# Altium integrated library Lattice ispGDX.IntLib: 49 symbols (part 1 of 6)
Pins are listed as number, name and electrical type; pins without a type are passive.

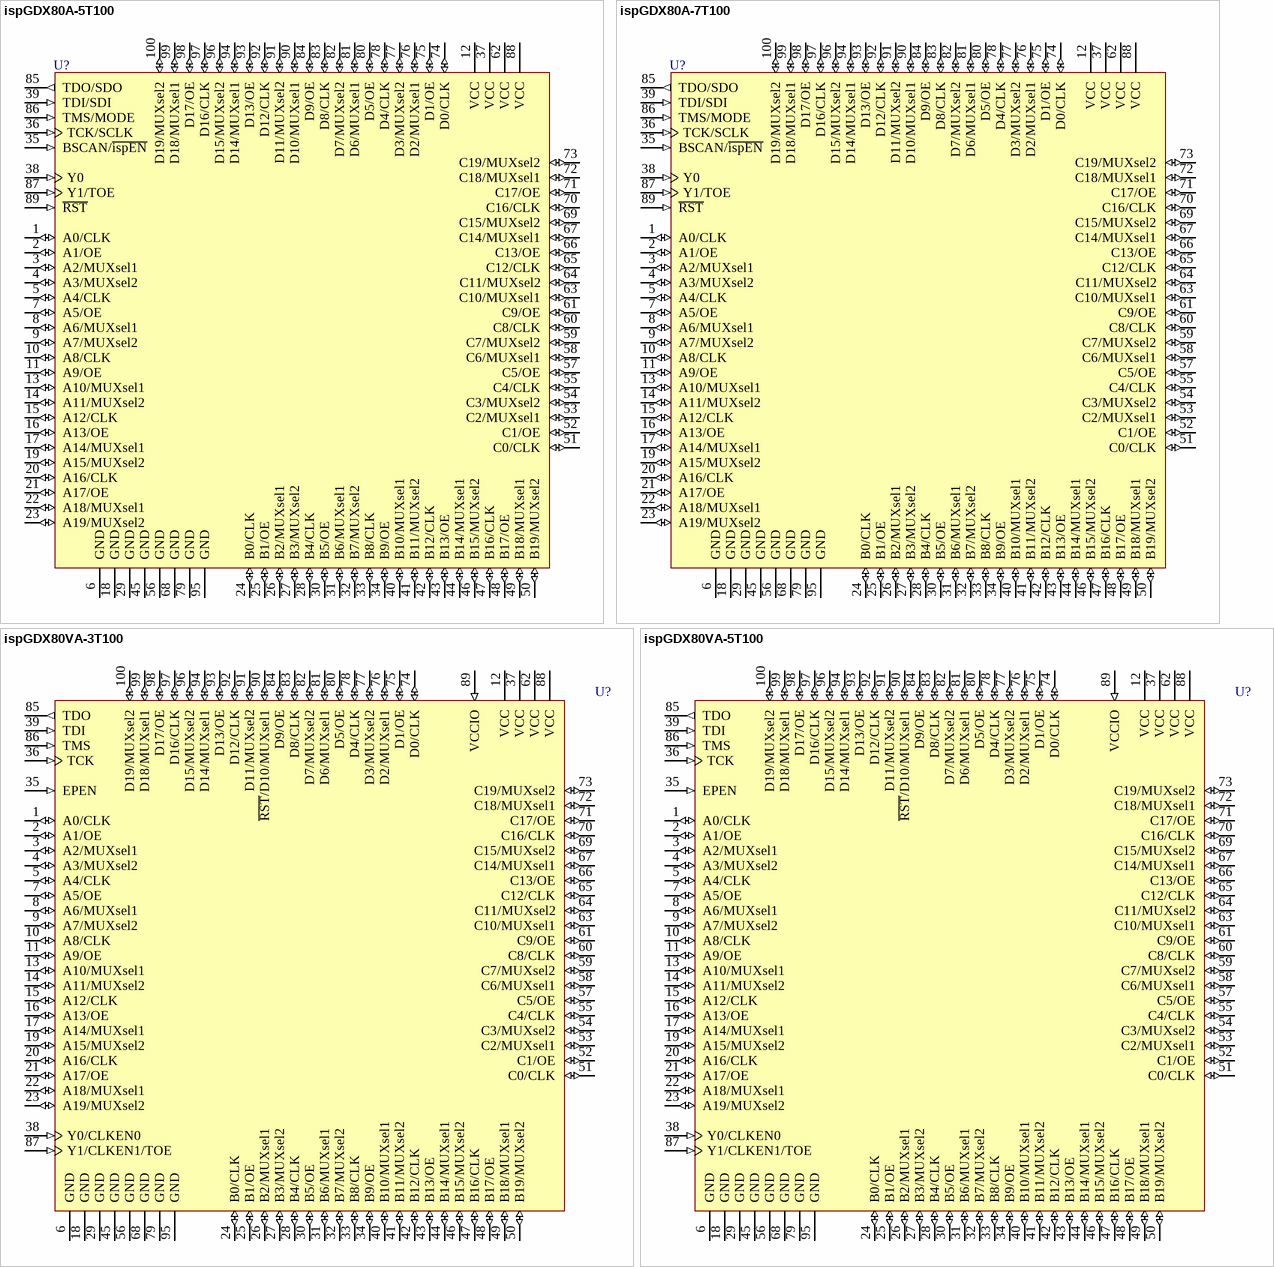
[diagram p0: symbols ispGDX80A-5T100 to ispGDX80VA-5T100]

## ispGDX80A-5T100
designator U?
In-System Programmable Generic Digital Crosspoint; Published: 17-Jul-2002; LatestRevisionDate: 13-Apr-2006; LatestRevisionNote: IPC-7351 Footprint Added.; DatasheetVersion: Aug-2000; PackageVersion: pkg_32, Aug-2005; PackageReference: TQFP100; Publisher: Altium Limited; PackageDescription: 100-Pin Thin Quad Flat Pack (TQFP100); Code_JEDEC: MS-026-BED; ComponentLink1Description: Manufacturer Link; ComponentLink1URL: http://www.latticesemi.com/products/digin/ispGDX/index.cfm; ComponentLink2Description: Datasheet; ComponentLink2URL: http://www.latticesemi.com/account/_download.cfm?AMID=126; ComponentLink3Description: Lattice Login; ComponentLink3URL: http://www.latticesemi.com/account/login.cfm
footprint TQFP100_N (Thin QFP, 100-Leads, Body 14x14mm, Pitch 0.5mm, IPC Medium Density)
footprint TQFP100_L (Thin QFP, 100-Leads, Body 14x14mm, Pitch 0.5mm, IPC High Density)
footprint TQFP100_M (Thin QFP, 100-Leads, Body 14x14mm, Pitch 0.5mm, IPC Low Density)
3D model 80A-TQFP100 (100-Pin Thin Quad Flat Pack (TQFP100))
pins: 1 A0/CLK (io), 2 A1/OE (io), 3 A2/MUXsel1 (io), 4 A3/MUXsel2 (io), 5 A4/CLK (io), 6 GND (power), 7 A5/OE (io), 8 A6/MUXsel1 (io), 9 A7/MUXsel2 (io), 10 A8/CLK (io), 11 A9/OE (io), 12 VCC (power), 13 A10/MUXsel1 (io), 14 A11/MUXsel2 (io), 15 A12/CLK (io), 16 A13/OE (io), 17 A14/MUXsel1 (io), 18 GND (power), 19 A15/MUXsel2 (io), 20 A16/CLK (io), 21 A17/OE (io), 22 A18/MUXsel1 (io), 23 A19/MUXsel2 (io), 24 B0/CLK (io), 25 B1/OE (io), 26 B2/MUXsel1 (io), 27 B3/MUXsel2 (io), 28 B4/CLK (io), 29 GND (power), 30 B5/OE (io), 31 B6/MUXsel1 (io), 32 B7/MUXsel2 (io), 33 B8/CLK (io), 34 B9/OE (io), 35 BSCAN/~{ispEN} (in), 36 TCK/SCLK (in), 37 VCC (power), 38 Y0 (in), 39 TDI/SDI (in), 40 B10/MUXsel1 (io), 41 B11/MUXsel2 (io), 42 B12/CLK (io), 43 B13/OE (io), 44 B14/MUXsel1 (io), 45 GND (power), 46 B15/MUXsel2 (io), 47 B16/CLK (io), 48 B17/OE (io), 49 B18/MUXsel1 (io), 50 B19/MUXsel2 (io), 51 C0/CLK (io), 52 C1/OE (io), 53 C2/MUXsel1 (io), 54 C3/MUXsel2 (io), 55 C4/CLK (io), 56 GND (power), 57 C5/OE (io), 58 C6/MUXsel1 (io), 59 C7/MUXsel2 (io), 60 C8/CLK (io), 61 C9/OE (io), 62 VCC (power), 63 C10/MUXsel1 (io), 64 C11/MUXsel2 (io), 65 C12/CLK (io), 66 C13/OE (io), 67 C14/MUXsel1 (io), 68 GND (power), 69 C15/MUXsel2 (io), 70 C16/CLK (io), 71 C17/OE (io), 72 C18/MUXsel1 (io), 73 C19/MUXsel2 (io), 74 D0/CLK (io), 75 D1/OE (io), 76 D2/MUXsel1 (io), 77 D3/MUXsel2 (io), 78 D4/CLK (io), 79 GND (power), 80 D5/OE (io), 81 D6/MUXsel1 (io), 82 D7/MUXsel2 (io), 83 D8/CLK (io), 84 D9/OE (io), 85 TDO/SDO (out), 86 TMS/MODE (in), 87 Y1/TOE (in), 88 VCC (power), 89 ~{RST} (in), 90 D10/MUXsel1 (io), 91 D11/MUXsel2 (io), 92 D12/CLK (io), 93 D13/OE (io), 94 D14/MUXsel1 (io), 95 GND (power), 96 D15/MUXsel2 (io), 97 D16/CLK (io), 98 D17/OE (io), 99 D18/MUXsel1 (io), 100 D19/MUXsel2 (io)

## ispGDX80A-7T100
designator U?
In-System Programmable Generic Digital Crosspoint; Published: 17-Jul-2002; LatestRevisionDate: 13-Apr-2006; LatestRevisionNote: IPC-7351 Footprint Added.; DatasheetVersion: Aug-2000; PackageVersion: pkg_32, Aug-2005; PackageReference: TQFP100; Publisher: Altium Limited; PackageDescription: 100-Pin Thin Quad Flat Pack (TQFP100); Code_JEDEC: MS-026-BED; ComponentLink1Description: Manufacturer Link; ComponentLink1URL: http://www.latticesemi.com/products/digin/ispGDX/index.cfm; ComponentLink2Description: Datasheet; ComponentLink2URL: http://www.latticesemi.com/account/_download.cfm?AMID=126; ComponentLink3Description: Lattice Login; ComponentLink3URL: http://www.latticesemi.com/account/login.cfm
footprint TQFP100_N (Thin QFP, 100-Leads, Body 14x14mm, Pitch 0.5mm, IPC Medium Density)
footprint TQFP100_L (Thin QFP, 100-Leads, Body 14x14mm, Pitch 0.5mm, IPC High Density)
footprint TQFP100_M (Thin QFP, 100-Leads, Body 14x14mm, Pitch 0.5mm, IPC Low Density)
3D model 80A-TQFP100 (100-Pin Thin Quad Flat Pack (TQFP100))
pins: 1 A0/CLK (io), 2 A1/OE (io), 3 A2/MUXsel1 (io), 4 A3/MUXsel2 (io), 5 A4/CLK (io), 6 GND (power), 7 A5/OE (io), 8 A6/MUXsel1 (io), 9 A7/MUXsel2 (io), 10 A8/CLK (io), 11 A9/OE (io), 12 VCC (power), 13 A10/MUXsel1 (io), 14 A11/MUXsel2 (io), 15 A12/CLK (io), 16 A13/OE (io), 17 A14/MUXsel1 (io), 18 GND (power), 19 A15/MUXsel2 (io), 20 A16/CLK (io), 21 A17/OE (io), 22 A18/MUXsel1 (io), 23 A19/MUXsel2 (io), 24 B0/CLK (io), 25 B1/OE (io), 26 B2/MUXsel1 (io), 27 B3/MUXsel2 (io), 28 B4/CLK (io), 29 GND (power), 30 B5/OE (io), 31 B6/MUXsel1 (io), 32 B7/MUXsel2 (io), 33 B8/CLK (io), 34 B9/OE (io), 35 BSCAN/~{ispEN} (in), 36 TCK/SCLK (in), 37 VCC (power), 38 Y0 (in), 39 TDI/SDI (in), 40 B10/MUXsel1 (io), 41 B11/MUXsel2 (io), 42 B12/CLK (io), 43 B13/OE (io), 44 B14/MUXsel1 (io), 45 GND (power), 46 B15/MUXsel2 (io), 47 B16/CLK (io), 48 B17/OE (io), 49 B18/MUXsel1 (io), 50 B19/MUXsel2 (io), 51 C0/CLK (io), 52 C1/OE (io), 53 C2/MUXsel1 (io), 54 C3/MUXsel2 (io), 55 C4/CLK (io), 56 GND (power), 57 C5/OE (io), 58 C6/MUXsel1 (io), 59 C7/MUXsel2 (io), 60 C8/CLK (io), 61 C9/OE (io), 62 VCC (power), 63 C10/MUXsel1 (io), 64 C11/MUXsel2 (io), 65 C12/CLK (io), 66 C13/OE (io), 67 C14/MUXsel1 (io), 68 GND (power), 69 C15/MUXsel2 (io), 70 C16/CLK (io), 71 C17/OE (io), 72 C18/MUXsel1 (io), 73 C19/MUXsel2 (io), 74 D0/CLK (io), 75 D1/OE (io), 76 D2/MUXsel1 (io), 77 D3/MUXsel2 (io), 78 D4/CLK (io), 79 GND (power), 80 D5/OE (io), 81 D6/MUXsel1 (io), 82 D7/MUXsel2 (io), 83 D8/CLK (io), 84 D9/OE (io), 85 TDO/SDO (out), 86 TMS/MODE (in), 87 Y1/TOE (in), 88 VCC (power), 89 ~{RST} (in), 90 D10/MUXsel1 (io), 91 D11/MUXsel2 (io), 92 D12/CLK (io), 93 D13/OE (io), 94 D14/MUXsel1 (io), 95 GND (power), 96 D15/MUXsel2 (io), 97 D16/CLK (io), 98 D17/OE (io), 99 D18/MUXsel1 (io), 100 D19/MUXsel2 (io)

## ispGDX80VA-3T100
designator U?
In-System Programmable 3.3V Generic Digital Crosspoint; Published: 17-Jul-2002; LatestRevisionDate: 13-Apr-2006; LatestRevisionNote: IPC-7351 Footprint Added.; DatasheetVersion: Sep-2000; PackageVersion: pkg_32, Aug-2005; PackageReference: TQFP100; Publisher: Altium Limited; PackageDescription: 100-Pin Thin Quad Flat Pack (TQFP100); Code_JEDEC: MS-026-BED; ComponentLink1Description: Manufacturer Link; ComponentLink1URL: http://www.latticesemi.com/products/digin/ispGDXV/index.cfm; ComponentLink2Description: Datasheet; ComponentLink2URL: http://www.latticesemi.com/account/_download.cfm?AMID=126; ComponentLink3Description: Lattice Login; ComponentLink3URL: http://www.latticesemi.com/account/login.cfm
footprint TQFP100_N (Thin QFP, 100-Leads, Body 14x14mm, Pitch 0.5mm, IPC Medium Density)
footprint TQFP100_L (Thin QFP, 100-Leads, Body 14x14mm, Pitch 0.5mm, IPC High Density)
footprint TQFP100_M (Thin QFP, 100-Leads, Body 14x14mm, Pitch 0.5mm, IPC Low Density)
3D model 80VA-TQFP100 (100-Pin Thin Quad Flat Pack (TQFP100))
pins: 1 A0/CLK (io), 2 A1/OE (io), 3 A2/MUXsel1 (io), 4 A3/MUXsel2 (io), 5 A4/CLK (io), 6 GND (power), 7 A5/OE (io), 8 A6/MUXsel1 (io), 9 A7/MUXsel2 (io), 10 A8/CLK (io), 11 A9/OE (io), 12 VCC (power), 13 A10/MUXsel1 (io), 14 A11/MUXsel2 (io), 15 A12/CLK (io), 16 A13/OE (io), 17 A14/MUXsel1 (io), 18 GND (power), 19 A15/MUXsel2 (io), 20 A16/CLK (io), 21 A17/OE (io), 22 A18/MUXsel1 (io), 23 A19/MUXsel2 (io), 24 B0/CLK (io), 25 B1/OE (io), 26 B2/MUXsel1 (io), 27 B3/MUXsel2 (io), 28 B4/CLK (io), 29 GND (power), 30 B5/OE (io), 31 B6/MUXsel1 (io), 32 B7/MUXsel2 (io), 33 B8/CLK (io), 34 B9/OE (io), 35 EPEN (in), 36 TCK (in), 37 VCC (power), 38 Y0/CLKEN0 (in), 39 TDI (in), 40 B10/MUXsel1 (io), 41 B11/MUXsel2 (io), 42 B12/CLK (io), 43 B13/OE (io), 44 B14/MUXsel1 (io), 45 GND (power), 46 B15/MUXsel2 (io), 47 B16/CLK (io), 48 B17/OE (io), 49 B18/MUXsel1 (io), 50 B19/MUXsel2 (io), 51 C0/CLK (io), 52 C1/OE (io), 53 C2/MUXsel1 (io), 54 C3/MUXsel2 (io), 55 C4/CLK (io), 56 GND (power), 57 C5/OE (io), 58 C6/MUXsel1 (io), 59 C7/MUXsel2 (io), 60 C8/CLK (io), 61 C9/OE (io), 62 VCC (power), 63 C10/MUXsel1 (io), 64 C11/MUXsel2 (io), 65 C12/CLK (io), 66 C13/OE (io), 67 C14/MUXsel1 (io), 68 GND (power), 69 C15/MUXsel2 (io), 70 C16/CLK (io), 71 C17/OE (io), 72 C18/MUXsel1 (io), 73 C19/MUXsel2 (io), 74 D0/CLK (io), 75 D1/OE (io), 76 D2/MUXsel1 (io), 77 D3/MUXsel2 (io), 78 D4/CLK (io), 79 GND (power), 80 D5/OE (io), 81 D6/MUXsel1 (io), 82 D7/MUXsel2 (io), 83 D8/CLK (io), 84 D9/OE (io), 85 TDO (out), 86 TMS (in), 87 Y1/CLKEN1/TOE (in), 88 VCC (power), 89 VCCIO (in), 90 ~{RST}/D10/MUXsel1 (io), 91 D11/MUXsel2 (io), 92 D12/CLK (io), 93 D13/OE (io), 94 D14/MUXsel1 (io), 95 GND (power), 96 D15/MUXsel2 (io), 97 D16/CLK (io), 98 D17/OE (io), 99 D18/MUXsel1 (io), 100 D19/MUXsel2 (io)

## ispGDX80VA-5T100
designator U?
In-System Programmable 3.3V Generic Digital Crosspoint; Published: 17-Jul-2002; LatestRevisionDate: 13-Apr-2006; LatestRevisionNote: IPC-7351 Footprint Added.; DatasheetVersion: Sep-2000; PackageVersion: pkg_32, Aug-2005; PackageReference: TQFP100; Publisher: Altium Limited; PackageDescription: 100-Pin Thin Quad Flat Pack (TQFP100); Code_JEDEC: MS-026-BED; ComponentLink1Description: Manufacturer Link; ComponentLink1URL: http://www.latticesemi.com/products/digin/ispGDXV/index.cfm; ComponentLink2Description: Datasheet; ComponentLink2URL: http://www.latticesemi.com/account/_download.cfm?AMID=126; ComponentLink3Description: Lattice Login; ComponentLink3URL: http://www.latticesemi.com/account/login.cfm
footprint TQFP100_N (Thin QFP, 100-Leads, Body 14x14mm, Pitch 0.5mm, IPC Medium Density)
footprint TQFP100_L (Thin QFP, 100-Leads, Body 14x14mm, Pitch 0.5mm, IPC High Density)
footprint TQFP100_M (Thin QFP, 100-Leads, Body 14x14mm, Pitch 0.5mm, IPC Low Density)
3D model 80VA-TQFP100 (100-Pin Thin Quad Flat Pack (TQFP100))
pins: 1 A0/CLK (io), 2 A1/OE (io), 3 A2/MUXsel1 (io), 4 A3/MUXsel2 (io), 5 A4/CLK (io), 6 GND (power), 7 A5/OE (io), 8 A6/MUXsel1 (io), 9 A7/MUXsel2 (io), 10 A8/CLK (io), 11 A9/OE (io), 12 VCC (power), 13 A10/MUXsel1 (io), 14 A11/MUXsel2 (io), 15 A12/CLK (io), 16 A13/OE (io), 17 A14/MUXsel1 (io), 18 GND (power), 19 A15/MUXsel2 (io), 20 A16/CLK (io), 21 A17/OE (io), 22 A18/MUXsel1 (io), 23 A19/MUXsel2 (io), 24 B0/CLK (io), 25 B1/OE (io), 26 B2/MUXsel1 (io), 27 B3/MUXsel2 (io), 28 B4/CLK (io), 29 GND (power), 30 B5/OE (io), 31 B6/MUXsel1 (io), 32 B7/MUXsel2 (io), 33 B8/CLK (io), 34 B9/OE (io), 35 EPEN (in), 36 TCK (in), 37 VCC (power), 38 Y0/CLKEN0 (in), 39 TDI (in), 40 B10/MUXsel1 (io), 41 B11/MUXsel2 (io), 42 B12/CLK (io), 43 B13/OE (io), 44 B14/MUXsel1 (io), 45 GND (power), 46 B15/MUXsel2 (io), 47 B16/CLK (io), 48 B17/OE (io), 49 B18/MUXsel1 (io), 50 B19/MUXsel2 (io), 51 C0/CLK (io), 52 C1/OE (io), 53 C2/MUXsel1 (io), 54 C3/MUXsel2 (io), 55 C4/CLK (io), 56 GND (power), 57 C5/OE (io), 58 C6/MUXsel1 (io), 59 C7/MUXsel2 (io), 60 C8/CLK (io), 61 C9/OE (io), 62 VCC (power), 63 C10/MUXsel1 (io), 64 C11/MUXsel2 (io), 65 C12/CLK (io), 66 C13/OE (io), 67 C14/MUXsel1 (io), 68 GND (power), 69 C15/MUXsel2 (io), 70 C16/CLK (io), 71 C17/OE (io), 72 C18/MUXsel1 (io), 73 C19/MUXsel2 (io), 74 D0/CLK (io), 75 D1/OE (io), 76 D2/MUXsel1 (io), 77 D3/MUXsel2 (io), 78 D4/CLK (io), 79 GND (power), 80 D5/OE (io), 81 D6/MUXsel1 (io), 82 D7/MUXsel2 (io), 83 D8/CLK (io), 84 D9/OE (io), 85 TDO (out), 86 TMS (in), 87 Y1/CLKEN1/TOE (in), 88 VCC (power), 89 VCCIO (in), 90 ~{RST}/D10/MUXsel1 (io), 91 D11/MUXsel2 (io), 92 D12/CLK (io), 93 D13/OE (io), 94 D14/MUXsel1 (io), 95 GND (power), 96 D15/MUXsel2 (io), 97 D16/CLK (io), 98 D17/OE (io), 99 D18/MUXsel1 (io), 100 D19/MUXsel2 (io)

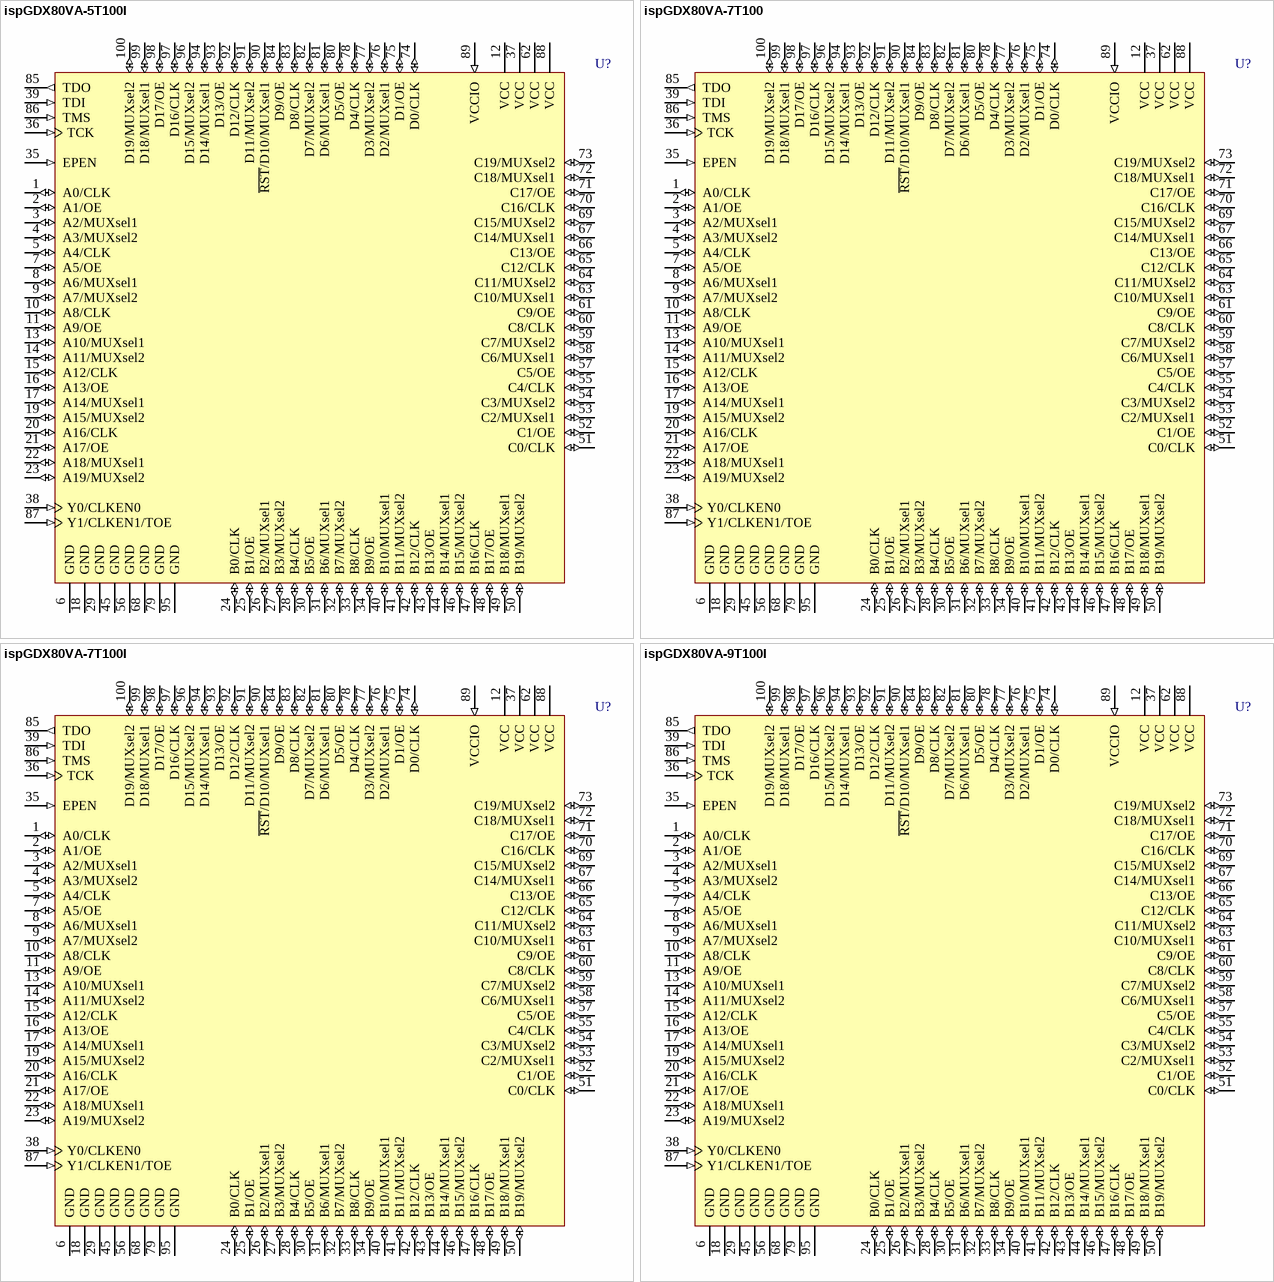
[diagram p1: symbols ispGDX80VA-5T100I to ispGDX80VA-9T100I]

## ispGDX80VA-5T100I
designator U?
In-System Programmable 3.3V Generic Digital Crosspoint; Published: 17-Jul-2002; LatestRevisionDate: 13-Apr-2006; LatestRevisionNote: IPC-7351 Footprint Added.; DatasheetVersion: Sep-2000; PackageVersion: pkg_32, Aug-2005; PackageReference: TQFP100; Publisher: Altium Limited; PackageDescription: 100-Pin Thin Quad Flat Pack (TQFP100); Code_JEDEC: MS-026-BED; ComponentLink1Description: Manufacturer Link; ComponentLink1URL: http://www.latticesemi.com/products/digin/ispGDXV/index.cfm; ComponentLink2Description: Datasheet; ComponentLink2URL: http://www.latticesemi.com/account/_download.cfm?AMID=126; ComponentLink3Description: Lattice Login; ComponentLink3URL: http://www.latticesemi.com/account/login.cfm
footprint TQFP100_N (Thin QFP, 100-Leads, Body 14x14mm, Pitch 0.5mm, IPC Medium Density)
footprint TQFP100_L (Thin QFP, 100-Leads, Body 14x14mm, Pitch 0.5mm, IPC High Density)
footprint TQFP100_M (Thin QFP, 100-Leads, Body 14x14mm, Pitch 0.5mm, IPC Low Density)
3D model 80VA-TQFP100 (100-Pin Thin Quad Flat Pack (TQFP100))
pins: 1 A0/CLK (io), 2 A1/OE (io), 3 A2/MUXsel1 (io), 4 A3/MUXsel2 (io), 5 A4/CLK (io), 6 GND (power), 7 A5/OE (io), 8 A6/MUXsel1 (io), 9 A7/MUXsel2 (io), 10 A8/CLK (io), 11 A9/OE (io), 12 VCC (power), 13 A10/MUXsel1 (io), 14 A11/MUXsel2 (io), 15 A12/CLK (io), 16 A13/OE (io), 17 A14/MUXsel1 (io), 18 GND (power), 19 A15/MUXsel2 (io), 20 A16/CLK (io), 21 A17/OE (io), 22 A18/MUXsel1 (io), 23 A19/MUXsel2 (io), 24 B0/CLK (io), 25 B1/OE (io), 26 B2/MUXsel1 (io), 27 B3/MUXsel2 (io), 28 B4/CLK (io), 29 GND (power), 30 B5/OE (io), 31 B6/MUXsel1 (io), 32 B7/MUXsel2 (io), 33 B8/CLK (io), 34 B9/OE (io), 35 EPEN (in), 36 TCK (in), 37 VCC (power), 38 Y0/CLKEN0 (in), 39 TDI (in), 40 B10/MUXsel1 (io), 41 B11/MUXsel2 (io), 42 B12/CLK (io), 43 B13/OE (io), 44 B14/MUXsel1 (io), 45 GND (power), 46 B15/MUXsel2 (io), 47 B16/CLK (io), 48 B17/OE (io), 49 B18/MUXsel1 (io), 50 B19/MUXsel2 (io), 51 C0/CLK (io), 52 C1/OE (io), 53 C2/MUXsel1 (io), 54 C3/MUXsel2 (io), 55 C4/CLK (io), 56 GND (power), 57 C5/OE (io), 58 C6/MUXsel1 (io), 59 C7/MUXsel2 (io), 60 C8/CLK (io), 61 C9/OE (io), 62 VCC (power), 63 C10/MUXsel1 (io), 64 C11/MUXsel2 (io), 65 C12/CLK (io), 66 C13/OE (io), 67 C14/MUXsel1 (io), 68 GND (power), 69 C15/MUXsel2 (io), 70 C16/CLK (io), 71 C17/OE (io), 72 C18/MUXsel1 (io), 73 C19/MUXsel2 (io), 74 D0/CLK (io), 75 D1/OE (io), 76 D2/MUXsel1 (io), 77 D3/MUXsel2 (io), 78 D4/CLK (io), 79 GND (power), 80 D5/OE (io), 81 D6/MUXsel1 (io), 82 D7/MUXsel2 (io), 83 D8/CLK (io), 84 D9/OE (io), 85 TDO (out), 86 TMS (in), 87 Y1/CLKEN1/TOE (in), 88 VCC (power), 89 VCCIO (in), 90 ~{RST}/D10/MUXsel1 (io), 91 D11/MUXsel2 (io), 92 D12/CLK (io), 93 D13/OE (io), 94 D14/MUXsel1 (io), 95 GND (power), 96 D15/MUXsel2 (io), 97 D16/CLK (io), 98 D17/OE (io), 99 D18/MUXsel1 (io), 100 D19/MUXsel2 (io)

## ispGDX80VA-7T100
designator U?
In-System Programmable 3.3V Generic Digital Crosspoint; Published: 17-Jul-2002; LatestRevisionDate: 13-Apr-2006; LatestRevisionNote: IPC-7351 Footprint Added.; DatasheetVersion: Sep-2000; PackageVersion: pkg_32, Aug-2005; PackageReference: TQFP100; Publisher: Altium Limited; PackageDescription: 100-Pin Thin Quad Flat Pack (TQFP100); Code_JEDEC: MS-026-BED; ComponentLink1Description: Manufacturer Link; ComponentLink1URL: http://www.latticesemi.com/products/digin/ispGDXV/index.cfm; ComponentLink2Description: Datasheet; ComponentLink2URL: http://www.latticesemi.com/account/_download.cfm?AMID=126; ComponentLink3Description: Lattice Login; ComponentLink3URL: http://www.latticesemi.com/account/login.cfm
footprint TQFP100_N (Thin QFP, 100-Leads, Body 14x14mm, Pitch 0.5mm, IPC Medium Density)
footprint TQFP100_L (Thin QFP, 100-Leads, Body 14x14mm, Pitch 0.5mm, IPC High Density)
footprint TQFP100_M (Thin QFP, 100-Leads, Body 14x14mm, Pitch 0.5mm, IPC Low Density)
3D model 80VA-TQFP100 (100-Pin Thin Quad Flat Pack (TQFP100))
pins: 1 A0/CLK (io), 2 A1/OE (io), 3 A2/MUXsel1 (io), 4 A3/MUXsel2 (io), 5 A4/CLK (io), 6 GND (power), 7 A5/OE (io), 8 A6/MUXsel1 (io), 9 A7/MUXsel2 (io), 10 A8/CLK (io), 11 A9/OE (io), 12 VCC (power), 13 A10/MUXsel1 (io), 14 A11/MUXsel2 (io), 15 A12/CLK (io), 16 A13/OE (io), 17 A14/MUXsel1 (io), 18 GND (power), 19 A15/MUXsel2 (io), 20 A16/CLK (io), 21 A17/OE (io), 22 A18/MUXsel1 (io), 23 A19/MUXsel2 (io), 24 B0/CLK (io), 25 B1/OE (io), 26 B2/MUXsel1 (io), 27 B3/MUXsel2 (io), 28 B4/CLK (io), 29 GND (power), 30 B5/OE (io), 31 B6/MUXsel1 (io), 32 B7/MUXsel2 (io), 33 B8/CLK (io), 34 B9/OE (io), 35 EPEN (in), 36 TCK (in), 37 VCC (power), 38 Y0/CLKEN0 (in), 39 TDI (in), 40 B10/MUXsel1 (io), 41 B11/MUXsel2 (io), 42 B12/CLK (io), 43 B13/OE (io), 44 B14/MUXsel1 (io), 45 GND (power), 46 B15/MUXsel2 (io), 47 B16/CLK (io), 48 B17/OE (io), 49 B18/MUXsel1 (io), 50 B19/MUXsel2 (io), 51 C0/CLK (io), 52 C1/OE (io), 53 C2/MUXsel1 (io), 54 C3/MUXsel2 (io), 55 C4/CLK (io), 56 GND (power), 57 C5/OE (io), 58 C6/MUXsel1 (io), 59 C7/MUXsel2 (io), 60 C8/CLK (io), 61 C9/OE (io), 62 VCC (power), 63 C10/MUXsel1 (io), 64 C11/MUXsel2 (io), 65 C12/CLK (io), 66 C13/OE (io), 67 C14/MUXsel1 (io), 68 GND (power), 69 C15/MUXsel2 (io), 70 C16/CLK (io), 71 C17/OE (io), 72 C18/MUXsel1 (io), 73 C19/MUXsel2 (io), 74 D0/CLK (io), 75 D1/OE (io), 76 D2/MUXsel1 (io), 77 D3/MUXsel2 (io), 78 D4/CLK (io), 79 GND (power), 80 D5/OE (io), 81 D6/MUXsel1 (io), 82 D7/MUXsel2 (io), 83 D8/CLK (io), 84 D9/OE (io), 85 TDO (out), 86 TMS (in), 87 Y1/CLKEN1/TOE (in), 88 VCC (power), 89 VCCIO (in), 90 ~{RST}/D10/MUXsel1 (io), 91 D11/MUXsel2 (io), 92 D12/CLK (io), 93 D13/OE (io), 94 D14/MUXsel1 (io), 95 GND (power), 96 D15/MUXsel2 (io), 97 D16/CLK (io), 98 D17/OE (io), 99 D18/MUXsel1 (io), 100 D19/MUXsel2 (io)

## ispGDX80VA-7T100I
designator U?
In-System Programmable 3.3V Generic Digital Crosspoint; Published: 17-Jul-2002; LatestRevisionDate: 13-Apr-2006; LatestRevisionNote: IPC-7351 Footprint Added.; DatasheetVersion: Sep-2000; PackageVersion: pkg_32, Aug-2005; PackageReference: TQFP100; Publisher: Altium Limited; PackageDescription: 100-Pin Thin Quad Flat Pack (TQFP100); Code_JEDEC: MS-026-BED; ComponentLink1Description: Manufacturer Link; ComponentLink1URL: http://www.latticesemi.com/products/digin/ispGDXV/index.cfm; ComponentLink2Description: Datasheet; ComponentLink2URL: http://www.latticesemi.com/account/_download.cfm?AMID=126; ComponentLink3Description: Lattice Login; ComponentLink3URL: http://www.latticesemi.com/account/login.cfm
footprint TQFP100_N (Thin QFP, 100-Leads, Body 14x14mm, Pitch 0.5mm, IPC Medium Density)
footprint TQFP100_L (Thin QFP, 100-Leads, Body 14x14mm, Pitch 0.5mm, IPC High Density)
footprint TQFP100_M (Thin QFP, 100-Leads, Body 14x14mm, Pitch 0.5mm, IPC Low Density)
3D model 80VA-TQFP100 (100-Pin Thin Quad Flat Pack (TQFP100))
pins: 1 A0/CLK (io), 2 A1/OE (io), 3 A2/MUXsel1 (io), 4 A3/MUXsel2 (io), 5 A4/CLK (io), 6 GND (power), 7 A5/OE (io), 8 A6/MUXsel1 (io), 9 A7/MUXsel2 (io), 10 A8/CLK (io), 11 A9/OE (io), 12 VCC (power), 13 A10/MUXsel1 (io), 14 A11/MUXsel2 (io), 15 A12/CLK (io), 16 A13/OE (io), 17 A14/MUXsel1 (io), 18 GND (power), 19 A15/MUXsel2 (io), 20 A16/CLK (io), 21 A17/OE (io), 22 A18/MUXsel1 (io), 23 A19/MUXsel2 (io), 24 B0/CLK (io), 25 B1/OE (io), 26 B2/MUXsel1 (io), 27 B3/MUXsel2 (io), 28 B4/CLK (io), 29 GND (power), 30 B5/OE (io), 31 B6/MUXsel1 (io), 32 B7/MUXsel2 (io), 33 B8/CLK (io), 34 B9/OE (io), 35 EPEN (in), 36 TCK (in), 37 VCC (power), 38 Y0/CLKEN0 (in), 39 TDI (in), 40 B10/MUXsel1 (io), 41 B11/MUXsel2 (io), 42 B12/CLK (io), 43 B13/OE (io), 44 B14/MUXsel1 (io), 45 GND (power), 46 B15/MUXsel2 (io), 47 B16/CLK (io), 48 B17/OE (io), 49 B18/MUXsel1 (io), 50 B19/MUXsel2 (io), 51 C0/CLK (io), 52 C1/OE (io), 53 C2/MUXsel1 (io), 54 C3/MUXsel2 (io), 55 C4/CLK (io), 56 GND (power), 57 C5/OE (io), 58 C6/MUXsel1 (io), 59 C7/MUXsel2 (io), 60 C8/CLK (io), 61 C9/OE (io), 62 VCC (power), 63 C10/MUXsel1 (io), 64 C11/MUXsel2 (io), 65 C12/CLK (io), 66 C13/OE (io), 67 C14/MUXsel1 (io), 68 GND (power), 69 C15/MUXsel2 (io), 70 C16/CLK (io), 71 C17/OE (io), 72 C18/MUXsel1 (io), 73 C19/MUXsel2 (io), 74 D0/CLK (io), 75 D1/OE (io), 76 D2/MUXsel1 (io), 77 D3/MUXsel2 (io), 78 D4/CLK (io), 79 GND (power), 80 D5/OE (io), 81 D6/MUXsel1 (io), 82 D7/MUXsel2 (io), 83 D8/CLK (io), 84 D9/OE (io), 85 TDO (out), 86 TMS (in), 87 Y1/CLKEN1/TOE (in), 88 VCC (power), 89 VCCIO (in), 90 ~{RST}/D10/MUXsel1 (io), 91 D11/MUXsel2 (io), 92 D12/CLK (io), 93 D13/OE (io), 94 D14/MUXsel1 (io), 95 GND (power), 96 D15/MUXsel2 (io), 97 D16/CLK (io), 98 D17/OE (io), 99 D18/MUXsel1 (io), 100 D19/MUXsel2 (io)

## ispGDX80VA-9T100I
designator U?
In-System Programmable 3.3V Generic Digital Crosspoint; Published: 17-Jul-2002; LatestRevisionDate: 13-Apr-2006; LatestRevisionNote: IPC-7351 Footprint Added.; DatasheetVersion: Sep-2000; PackageVersion: pkg_32, Aug-2005; PackageReference: TQFP100; Publisher: Altium Limited; PackageDescription: 100-Pin Thin Quad Flat Pack (TQFP100); Code_JEDEC: MS-026-BED; ComponentLink1Description: Manufacturer Link; ComponentLink1URL: http://www.latticesemi.com/products/digin/ispGDXV/index.cfm; ComponentLink2Description: Datasheet; ComponentLink2URL: http://www.latticesemi.com/account/_download.cfm?AMID=126; ComponentLink3Description: Lattice Login; ComponentLink3URL: http://www.latticesemi.com/account/login.cfm
footprint TQFP100_N (Thin QFP, 100-Leads, Body 14x14mm, Pitch 0.5mm, IPC Medium Density)
footprint TQFP100_L (Thin QFP, 100-Leads, Body 14x14mm, Pitch 0.5mm, IPC High Density)
footprint TQFP100_M (Thin QFP, 100-Leads, Body 14x14mm, Pitch 0.5mm, IPC Low Density)
3D model 80VA-TQFP100 (100-Pin Thin Quad Flat Pack (TQFP100))
pins: 1 A0/CLK (io), 2 A1/OE (io), 3 A2/MUXsel1 (io), 4 A3/MUXsel2 (io), 5 A4/CLK (io), 6 GND (power), 7 A5/OE (io), 8 A6/MUXsel1 (io), 9 A7/MUXsel2 (io), 10 A8/CLK (io), 11 A9/OE (io), 12 VCC (power), 13 A10/MUXsel1 (io), 14 A11/MUXsel2 (io), 15 A12/CLK (io), 16 A13/OE (io), 17 A14/MUXsel1 (io), 18 GND (power), 19 A15/MUXsel2 (io), 20 A16/CLK (io), 21 A17/OE (io), 22 A18/MUXsel1 (io), 23 A19/MUXsel2 (io), 24 B0/CLK (io), 25 B1/OE (io), 26 B2/MUXsel1 (io), 27 B3/MUXsel2 (io), 28 B4/CLK (io), 29 GND (power), 30 B5/OE (io), 31 B6/MUXsel1 (io), 32 B7/MUXsel2 (io), 33 B8/CLK (io), 34 B9/OE (io), 35 EPEN (in), 36 TCK (in), 37 VCC (power), 38 Y0/CLKEN0 (in), 39 TDI (in), 40 B10/MUXsel1 (io), 41 B11/MUXsel2 (io), 42 B12/CLK (io), 43 B13/OE (io), 44 B14/MUXsel1 (io), 45 GND (power), 46 B15/MUXsel2 (io), 47 B16/CLK (io), 48 B17/OE (io), 49 B18/MUXsel1 (io), 50 B19/MUXsel2 (io), 51 C0/CLK (io), 52 C1/OE (io), 53 C2/MUXsel1 (io), 54 C3/MUXsel2 (io), 55 C4/CLK (io), 56 GND (power), 57 C5/OE (io), 58 C6/MUXsel1 (io), 59 C7/MUXsel2 (io), 60 C8/CLK (io), 61 C9/OE (io), 62 VCC (power), 63 C10/MUXsel1 (io), 64 C11/MUXsel2 (io), 65 C12/CLK (io), 66 C13/OE (io), 67 C14/MUXsel1 (io), 68 GND (power), 69 C15/MUXsel2 (io), 70 C16/CLK (io), 71 C17/OE (io), 72 C18/MUXsel1 (io), 73 C19/MUXsel2 (io), 74 D0/CLK (io), 75 D1/OE (io), 76 D2/MUXsel1 (io), 77 D3/MUXsel2 (io), 78 D4/CLK (io), 79 GND (power), 80 D5/OE (io), 81 D6/MUXsel1 (io), 82 D7/MUXsel2 (io), 83 D8/CLK (io), 84 D9/OE (io), 85 TDO (out), 86 TMS (in), 87 Y1/CLKEN1/TOE (in), 88 VCC (power), 89 VCCIO (in), 90 ~{RST}/D10/MUXsel1 (io), 91 D11/MUXsel2 (io), 92 D12/CLK (io), 93 D13/OE (io), 94 D14/MUXsel1 (io), 95 GND (power), 96 D15/MUXsel2 (io), 97 D16/CLK (io), 98 D17/OE (io), 99 D18/MUXsel1 (io), 100 D19/MUXsel2 (io)

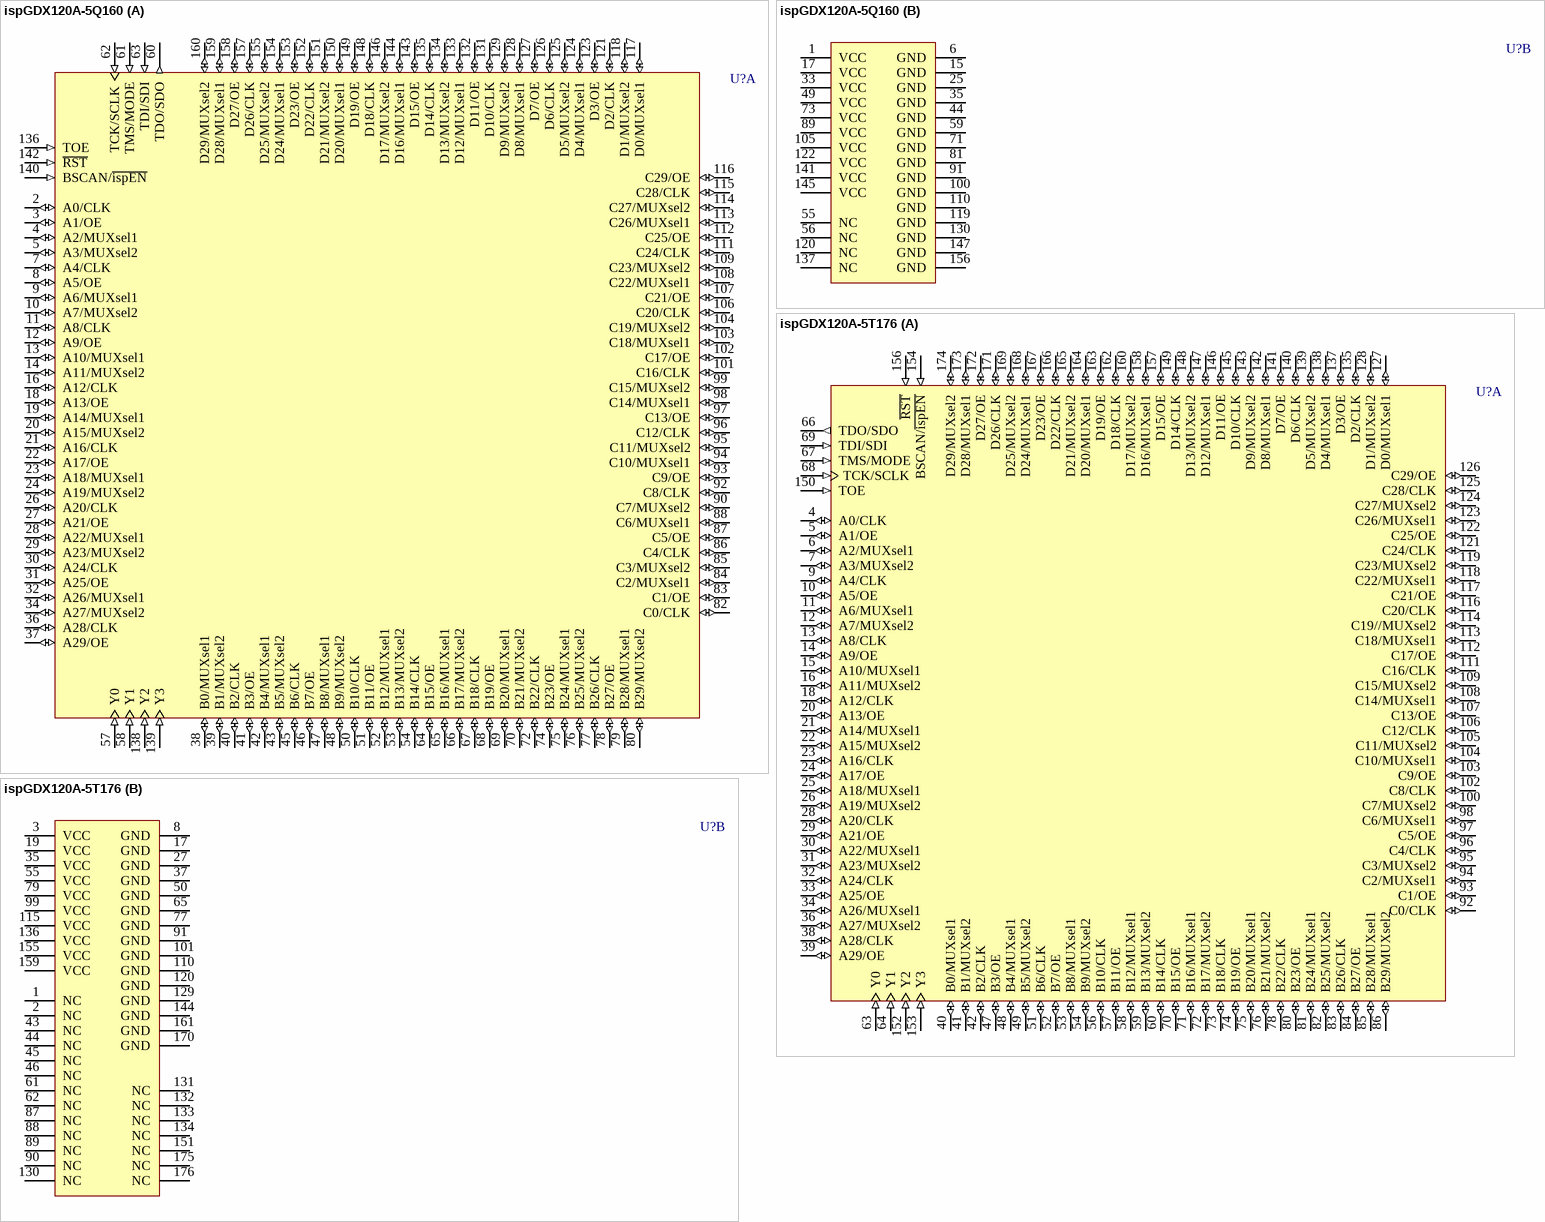
[diagram p2: symbols ispGDX120A-5Q160 to ispGDX120A-5T176]

## ispGDX120A-5Q160
designator U?
In-System Programmable Generic Digital Crosspoint; Note: NC pins are not to be connected to any active signals, VCC or GND.; Published: 17-Jul-2002; LatestRevisionDate: 13-Apr-2006; LatestRevisionNote: IPC-7351 Footprint Added.; DatasheetVersion: Aug-2000; PackageVersion: pkg_32, Aug-2005; PackageReference: PQFP160; Publisher: Altium Limited; PackageDescription: 160-Pin Quad Flat Pack 0.65 mm Pitch; Code_IPC: QFP65P3120X3120-160; ComponentLink1Description: Manufacturer Link; ComponentLink1URL: http://www.latticesemi.com/products/digin/ispGDX/index.cfm; ComponentLink2Description: Datasheet; ComponentLink2URL: http://www.latticesemi.com/account/_download.cfm?AMID=126; ComponentLink3Description: Lattice Login; ComponentLink3URL: http://www.latticesemi.com/account/login.cfm
footprint PQFP160_N (QFP, 160-Leads, Body 28 x 28mm, Pitch 0.65mm, IPC Medium Density)
footprint PQFP160_L (QFP, 160-Leads, Body 28 x 28mm, Pitch 0.65mm, IPC High Density)
footprint PQFP160_M (QFP, 160-Leads, Body 28 x 28mm, Pitch 0.65mm, IPC Low Density)
3D model 120A-PQFP160 (160-Pin Quad Flat Pack 0.65 mm Pitch)
part A pins: 2 A0/CLK (io), 3 A1/OE (io), 4 A2/MUXsel1 (io), 5 A3/MUXsel2 (io), 7 A4/CLK (io), 8 A5/OE (io), 9 A6/MUXsel1 (io), 10 A7/MUXsel2 (io), 11 A8/CLK (io), 12 A9/OE (io), 13 A10/MUXsel1 (io), 14 A11/MUXsel2 (io), 16 A12/CLK (io), 18 A13/OE (io), 19 A14/MUXsel1 (io), 20 A15/MUXsel2 (io), 21 A16/CLK (io), 22 A17/OE (io), 23 A18/MUXsel1 (io), 24 A19/MUXsel2 (io), 26 A20/CLK (io), 27 A21/OE (io), 28 A22/MUXsel1 (io), 29 A23/MUXsel2 (io), 30 A24/CLK (io), 31 A25/OE (io), 32 A26/MUXsel1 (io), 34 A27/MUXsel2 (io), 36 A28/CLK (io), 37 A29/OE (io), 38 B0/MUXsel1 (io), 39 B1/MUXsel2 (io), 40 B2/CLK (io), 41 B3/OE (io), 42 B4/MUXsel1 (io), 43 B5/MUXsel2 (io), 45 B6/CLK (io), 46 B7/OE (io), 47 B8/MUXsel1 (io), 48 B9/MUXsel2 (io), 50 B10/CLK (io), 51 B11/OE (io), 52 B12/MUXsel1 (io), 53 B13/MUXsel2 (io), 54 B14/CLK (io), 57 Y0 (in), 58 Y1 (in), 60 TDO/SDO (out), 61 TMS/MODE (in), 62 TCK/SCLK (in), 63 TDI/SDI (in), 64 B15/OE (io), 65 B16/MUXsel1 (io), 66 B17/MUXsel2 (io), 67 B18/CLK (io), 68 B19/OE (io), 69 B20/MUXsel1 (io), 70 B21/MUXsel2 (io), 72 B22/CLK (io), 74 B23/OE (io), 75 B24/MUXsel1 (io), 76 B25/MUXsel2 (io), 77 B26/CLK (io), 78 B27/OE (io), 79 B28/MUXsel1 (io), 80 B29/MUXsel2 (io), 82 C0/CLK (io), 83 C1/OE (io), 84 C2/MUXsel1 (io), 85 C3/MUXsel2 (io), 86 C4/CLK (io), 87 C5/OE (io), 88 C6/MUXsel1 (io), 90 C7/MUXsel2 (io), 92 C8/CLK (io), 93 C9/OE (io), 94 C10/MUXsel1 (io), 95 C11/MUXsel2 (io), 96 C12/CLK (io), 97 C13/OE (io), 98 C14/MUXsel1 (io), 99 C15/MUXsel2 (io), 101 C16/CLK (io), 102 C17/OE (io), 103 C18/MUXsel1 (io), 104 C19/MUXsel2 (io), 106 C20/CLK (io), 107 C21/OE (io), 108 C22/MUXsel1 (io), 109 C23/MUXsel2 (io), 111 C24/CLK (io), 112 C25/OE (io), 113 C26/MUXsel1 (io), 114 C27/MUXsel2 (io), 115 C28/CLK (io), 116 C29/OE (io), 117 D0/MUXsel1 (io), 118 D1/MUXsel2 (io), 121 D2/CLK (io), 123 D3/OE (io), 124 D4/MUXsel1 (io), 125 D5/MUXsel2 (io), 126 D6/CLK (io), 127 D7/OE (io), 128 D8/MUXsel1 (io), 129 D9/MUXsel2 (io), 131 D10/CLK (io), 132 D11/OE (io), 133 D12/MUXsel1 (io), 134 D13/MUXsel2 (io), 135 D14/CLK (io), 136 TOE (in), 138 Y2 (in), 139 Y3 (in), 140 BSCAN/~{ispEN} (in), 142 ~{RST} (in), 143 D15/OE (io), 144 D16/MUXsel1 (io), 146 D17/MUXsel2 (io), 148 D18/CLK (io), 149 D19/OE (io), 150 D20/MUXsel1 (io), 151 D21/MUXsel2 (io), 152 D22/CLK (io), 153 D23/OE (io), 154 D24/MUXsel1 (io), 155 D25/MUXsel2 (io), 157 D26/CLK (io), 158 D27/OE (io), 159 D28/MUXsel1 (io), 160 D29/MUXsel2 (io)
part B pins: 1 VCC (power), 6 GND (power), 15 GND (power), 17 VCC (power), 25 GND (power), 33 VCC (power), 35 GND (power), 44 GND (power), 49 VCC (power), 55 NC, 56 NC, 59 GND (power), 71 GND (power), 73 VCC (power), 81 GND (power), 89 VCC (power), 91 GND (power), 100 GND (power), 105 VCC (power), 110 GND (power), 119 GND (power), 120 NC, 122 VCC (power), 130 GND (power), 137 NC, 141 VCC (power), 145 VCC (power), 147 GND (power), 156 GND (power)

## ispGDX120A-5T176
designator U?
In-System Programmable Generic Digital Crosspoint; Note: NC pins are not to be connected to any active signals, VCC or GND.; Published: 17-Jul-2002; LatestRevisionDate: 13-Apr-2006; LatestRevisionNote: IPC-7351 Footprint Added.; DatasheetVersion: Aug-2000; PackageVersion: pkg_32, Aug-2005; PackageReference: TQFP176; Publisher: Altium Limited; PackageDescription: 176-Pin Thin Quad Flat Pack 0.5 mm Pitch; ComponentLink1Description: Manufacturer Link; ComponentLink1URL: http://www.latticesemi.com/products/digin/ispGDX/index.cfm; ComponentLink2Description: Datasheet; ComponentLink2URL: http://www.latticesemi.com/account/_download.cfm?AMID=126; ComponentLink3Description: Lattice Login; ComponentLink3URL: http://www.latticesemi.com/account/login.cfm
footprint TQFP176_N (Thin QFP, 176-Leads, Body 24x24mm, Pitch 0.5mm, IPC Medium Density)
footprint TQFP176_L (Thin QFP, 176-Leads, Body 24x24mm, Pitch 0.5mm, IPC High Density)
footprint TQFP176_M (Thin QFP, 176-Leads, Body 24x24mm, Pitch 0.5mm, IPC Low Density)
3D model 120A-TQFP176 (176-Pin Thin Quad Flat Pack 0.5 mm Pitch)
part A pins: 4 A0/CLK (io), 5 A1/OE (io), 6 A2/MUXsel1 (io), 7 A3/MUXsel2 (io), 9 A4/CLK (io), 10 A5/OE (io), 11 A6/MUXsel1 (io), 12 A7/MUXsel2 (io), 13 A8/CLK (io), 14 A9/OE (io), 15 A10/MUXsel1 (io), 16 A11/MUXsel2 (io), 18 A12/CLK (io), 20 A13/OE (io), 21 A14/MUXsel1 (io), 22 A15/MUXsel2 (io), 23 A16/CLK (io), 24 A17/OE (io), 25 A18/MUXsel1 (io), 26 A19/MUXsel2 (io), 28 A20/CLK (io), 29 A21/OE (io), 30 A22/MUXsel1 (io), 31 A23/MUXsel2 (io), 32 A24/CLK (io), 33 A25/OE (io), 34 A26/MUXsel1 (io), 36 A27/MUXsel2 (io), 38 A28/CLK (io), 39 A29/OE (io), 40 B0/MUXsel1 (io), 41 B1/MUXsel2 (io), 42 B2/CLK (io), 47 B3/OE (io), 48 B4/MUXsel1 (io), 49 B5/MUXsel2 (io), 51 B6/CLK (io), 52 B7/OE (io), 53 B8/MUXsel1 (io), 54 B9/MUXsel2 (io), 56 B10/CLK (io), 57 B11/OE (io), 58 B12/MUXsel1 (io), 59 B13/MUXsel2 (io), 60 B14/CLK (io), 63 Y0 (in), 64 Y1 (in), 66 TDO/SDO (out), 67 TMS/MODE (in), 68 TCK/SCLK (in), 69 TDI/SDI (in), 70 B15/OE (io), 71 B16/MUXsel1 (io), 72 B17/MUXsel2 (io), 73 B18/CLK (io), 74 B19/OE (io), 75 B20/MUXsel1 (io), 76 B21/MUXsel2 (io), 78 B22/CLK (io), 80 B23/OE (io), 81 B24/MUXsel1 (io), 82 B25/MUXsel2 (io), 83 B26/CLK (io), 84 B27/OE (io), 85 B28/MUXsel1 (io), 86 B29/MUXsel2 (io), 92 C0/CLK (io), 93 C1/OE (io), 94 C2/MUXsel1 (io), 95 C3/MUXsel2 (io), 96 C4/CLK (io), 97 C5/OE (io), 98 C6/MUXsel1 (io), 100 C7/MUXsel2 (io), 102 C8/CLK (io), 103 C9/OE (io), 104 C10/MUXsel1 (io), 105 C11/MUXsel2 (io), 106 C12/CLK (io), 107 C13/OE (io), 108 C14/MUXsel1 (io), 109 C15/MUXsel2 (io), 111 C16/CLK (io), 112 C17/OE (io), 113 C18/MUXsel1 (io), 114 C19//MUXsel2 (io), 116 C20/CLK (io), 117 C21/OE (io), 118 C22/MUXsel1 (io), 119 C23/MUXsel2 (io), 121 C24/CLK (io), 122 C25/OE (io), 123 C26/MUXsel1 (io), 124 C27/MUXsel2 (io), 125 C28/CLK (io), 126 C29/OE (io), 127 D0/MUXsel1 (io), 128 D1/MUXsel2 (io), 135 D2/CLK (io), 137 D3/OE (io), 138 D4/MUXsel1 (io), 139 D5/MUXsel2 (io), 140 D6/CLK (io), 141 D7/OE (io), 142 D8/MUXsel1 (io), 143 D9/MUXsel2 (io), 145 D10/CLK (io), 146 D11/OE (io), 147 D12/MUXsel1 (io), 148 D13/MUXsel2 (io), 149 D14/CLK (io), 150 TOE (in), 152 Y2 (in), 153 Y3 (in), 154 BSCAN/~{ispEN} (in), 156 ~{RST} (in), 157 D15/OE (io), 158 D16/MUXsel1 (io), 160 D17/MUXsel2 (io), 162 D18/CLK (io), 163 D19/OE (io), 164 D20/MUXsel1 (io), 165 D21/MUXsel2 (io), 166 D22/CLK (io), 167 D23/OE (io), 168 D24/MUXsel1 (io), 169 D25/MUXsel2 (io), 171 D26/CLK (io), 172 D27/OE (io), 173 D28/MUXsel1 (io), 174 D29/MUXsel2 (io)
part B pins: 1 NC, 2 NC, 3 VCC (power), 8 GND (power), 17 GND (power), 19 VCC (power), 27 GND (power), 35 VCC (power), 37 GND (power), 43 NC, 44 NC, 45 NC, 46 NC, 50 GND (power), 55 VCC (power), 61 NC, 62 NC, 65 GND (power), 77 GND (power), 79 VCC (power), 87 NC, 88 NC, 89 NC, 90 NC, 91 GND (power), 99 VCC (power), 101 GND (power), 110 GND (power), 115 VCC (power), 120 GND (power), 129 GND (power), 130 NC, 131 NC, 132 NC, 133 NC, 134 NC, 136 VCC (power), 144 GND (power), 151 NC, 155 VCC (power), 159 VCC (power), 161 GND (power), 170 GND (power), 175 NC, 176 NC

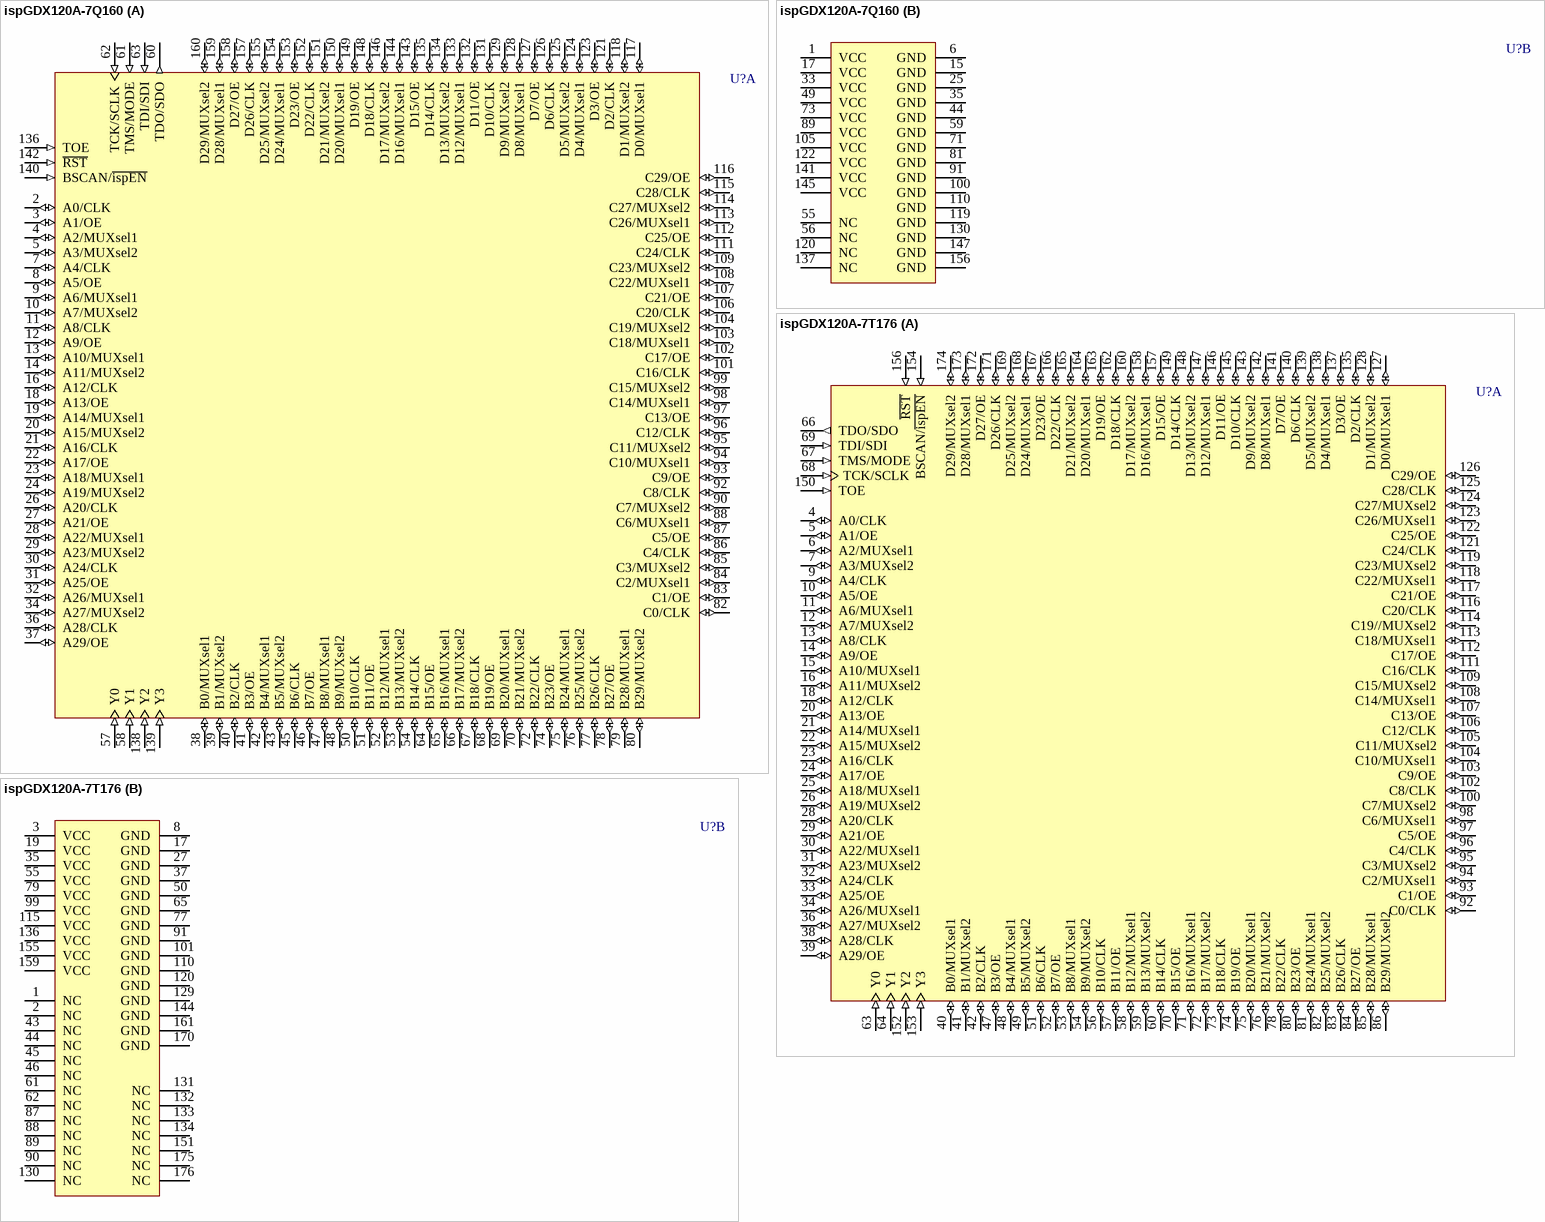
[diagram p3: symbols ispGDX120A-7Q160 to ispGDX120A-7T176]

## ispGDX120A-7Q160
designator U?
In-System Programmable Generic Digital Crosspoint; Note: NC pins are not to be connected to any active signals, VCC or GND.; Published: 17-Jul-2002; LatestRevisionDate: 13-Apr-2006; LatestRevisionNote: IPC-7351 Footprint Added.; DatasheetVersion: Aug-2000; PackageVersion: pkg_32, Aug-2005; PackageReference: PQFP160; Publisher: Altium Limited; PackageDescription: 160-Pin Quad Flat Pack 0.65 mm Pitch; Code_IPC: QFP65P3120X3120-160; ComponentLink1Description: Manufacturer Link; ComponentLink1URL: http://www.latticesemi.com/products/digin/ispGDX/index.cfm; ComponentLink2Description: Datasheet; ComponentLink2URL: http://www.latticesemi.com/account/_download.cfm?AMID=126; ComponentLink3Description: Lattice Login; ComponentLink3URL: http://www.latticesemi.com/account/login.cfm
footprint PQFP160_N (QFP, 160-Leads, Body 28 x 28mm, Pitch 0.65mm, IPC Medium Density)
footprint PQFP160_L (QFP, 160-Leads, Body 28 x 28mm, Pitch 0.65mm, IPC High Density)
footprint PQFP160_M (QFP, 160-Leads, Body 28 x 28mm, Pitch 0.65mm, IPC Low Density)
3D model 120A-PQFP160 (160-Pin Quad Flat Pack 0.65 mm Pitch)
part A pins: 2 A0/CLK (io), 3 A1/OE (io), 4 A2/MUXsel1 (io), 5 A3/MUXsel2 (io), 7 A4/CLK (io), 8 A5/OE (io), 9 A6/MUXsel1 (io), 10 A7/MUXsel2 (io), 11 A8/CLK (io), 12 A9/OE (io), 13 A10/MUXsel1 (io), 14 A11/MUXsel2 (io), 16 A12/CLK (io), 18 A13/OE (io), 19 A14/MUXsel1 (io), 20 A15/MUXsel2 (io), 21 A16/CLK (io), 22 A17/OE (io), 23 A18/MUXsel1 (io), 24 A19/MUXsel2 (io), 26 A20/CLK (io), 27 A21/OE (io), 28 A22/MUXsel1 (io), 29 A23/MUXsel2 (io), 30 A24/CLK (io), 31 A25/OE (io), 32 A26/MUXsel1 (io), 34 A27/MUXsel2 (io), 36 A28/CLK (io), 37 A29/OE (io), 38 B0/MUXsel1 (io), 39 B1/MUXsel2 (io), 40 B2/CLK (io), 41 B3/OE (io), 42 B4/MUXsel1 (io), 43 B5/MUXsel2 (io), 45 B6/CLK (io), 46 B7/OE (io), 47 B8/MUXsel1 (io), 48 B9/MUXsel2 (io), 50 B10/CLK (io), 51 B11/OE (io), 52 B12/MUXsel1 (io), 53 B13/MUXsel2 (io), 54 B14/CLK (io), 57 Y0 (in), 58 Y1 (in), 60 TDO/SDO (out), 61 TMS/MODE (in), 62 TCK/SCLK (in), 63 TDI/SDI (in), 64 B15/OE (io), 65 B16/MUXsel1 (io), 66 B17/MUXsel2 (io), 67 B18/CLK (io), 68 B19/OE (io), 69 B20/MUXsel1 (io), 70 B21/MUXsel2 (io), 72 B22/CLK (io), 74 B23/OE (io), 75 B24/MUXsel1 (io), 76 B25/MUXsel2 (io), 77 B26/CLK (io), 78 B27/OE (io), 79 B28/MUXsel1 (io), 80 B29/MUXsel2 (io), 82 C0/CLK (io), 83 C1/OE (io), 84 C2/MUXsel1 (io), 85 C3/MUXsel2 (io), 86 C4/CLK (io), 87 C5/OE (io), 88 C6/MUXsel1 (io), 90 C7/MUXsel2 (io), 92 C8/CLK (io), 93 C9/OE (io), 94 C10/MUXsel1 (io), 95 C11/MUXsel2 (io), 96 C12/CLK (io), 97 C13/OE (io), 98 C14/MUXsel1 (io), 99 C15/MUXsel2 (io), 101 C16/CLK (io), 102 C17/OE (io), 103 C18/MUXsel1 (io), 104 C19/MUXsel2 (io), 106 C20/CLK (io), 107 C21/OE (io), 108 C22/MUXsel1 (io), 109 C23/MUXsel2 (io), 111 C24/CLK (io), 112 C25/OE (io), 113 C26/MUXsel1 (io), 114 C27/MUXsel2 (io), 115 C28/CLK (io), 116 C29/OE (io), 117 D0/MUXsel1 (io), 118 D1/MUXsel2 (io), 121 D2/CLK (io), 123 D3/OE (io), 124 D4/MUXsel1 (io), 125 D5/MUXsel2 (io), 126 D6/CLK (io), 127 D7/OE (io), 128 D8/MUXsel1 (io), 129 D9/MUXsel2 (io), 131 D10/CLK (io), 132 D11/OE (io), 133 D12/MUXsel1 (io), 134 D13/MUXsel2 (io), 135 D14/CLK (io), 136 TOE (in), 138 Y2 (in), 139 Y3 (in), 140 BSCAN/~{ispEN} (in), 142 ~{RST} (in), 143 D15/OE (io), 144 D16/MUXsel1 (io), 146 D17/MUXsel2 (io), 148 D18/CLK (io), 149 D19/OE (io), 150 D20/MUXsel1 (io), 151 D21/MUXsel2 (io), 152 D22/CLK (io), 153 D23/OE (io), 154 D24/MUXsel1 (io), 155 D25/MUXsel2 (io), 157 D26/CLK (io), 158 D27/OE (io), 159 D28/MUXsel1 (io), 160 D29/MUXsel2 (io)
part B pins: 1 VCC (power), 6 GND (power), 15 GND (power), 17 VCC (power), 25 GND (power), 33 VCC (power), 35 GND (power), 44 GND (power), 49 VCC (power), 55 NC, 56 NC, 59 GND (power), 71 GND (power), 73 VCC (power), 81 GND (power), 89 VCC (power), 91 GND (power), 100 GND (power), 105 VCC (power), 110 GND (power), 119 GND (power), 120 NC, 122 VCC (power), 130 GND (power), 137 NC, 141 VCC (power), 145 VCC (power), 147 GND (power), 156 GND (power)

## ispGDX120A-7T176
designator U?
In-System Programmable Generic Digital Crosspoint; Note: NC pins are not to be connected to any active signals, VCC or GND.; Published: 17-Jul-2002; LatestRevisionDate: 13-Apr-2006; LatestRevisionNote: IPC-7351 Footprint Added.; DatasheetVersion: Aug-2000; PackageVersion: pkg_32, Aug-2005; PackageReference: TQFP176; Publisher: Altium Limited; PackageDescription: 176-Pin Thin Quad Flat Pack 0.5 mm Pitch; ComponentLink1Description: Manufacturer Link; ComponentLink1URL: http://www.latticesemi.com/products/digin/ispGDX/index.cfm; ComponentLink2Description: Datasheet; ComponentLink2URL: http://www.latticesemi.com/account/_download.cfm?AMID=126; ComponentLink3Description: Lattice Login; ComponentLink3URL: http://www.latticesemi.com/account/login.cfm
footprint TQFP176_N (Thin QFP, 176-Leads, Body 24x24mm, Pitch 0.5mm, IPC Medium Density)
footprint TQFP176_L (Thin QFP, 176-Leads, Body 24x24mm, Pitch 0.5mm, IPC High Density)
footprint TQFP176_M (Thin QFP, 176-Leads, Body 24x24mm, Pitch 0.5mm, IPC Low Density)
3D model 120A-TQFP176 (176-Pin Thin Quad Flat Pack 0.5 mm Pitch)
part A pins: 4 A0/CLK (io), 5 A1/OE (io), 6 A2/MUXsel1 (io), 7 A3/MUXsel2 (io), 9 A4/CLK (io), 10 A5/OE (io), 11 A6/MUXsel1 (io), 12 A7/MUXsel2 (io), 13 A8/CLK (io), 14 A9/OE (io), 15 A10/MUXsel1 (io), 16 A11/MUXsel2 (io), 18 A12/CLK (io), 20 A13/OE (io), 21 A14/MUXsel1 (io), 22 A15/MUXsel2 (io), 23 A16/CLK (io), 24 A17/OE (io), 25 A18/MUXsel1 (io), 26 A19/MUXsel2 (io), 28 A20/CLK (io), 29 A21/OE (io), 30 A22/MUXsel1 (io), 31 A23/MUXsel2 (io), 32 A24/CLK (io), 33 A25/OE (io), 34 A26/MUXsel1 (io), 36 A27/MUXsel2 (io), 38 A28/CLK (io), 39 A29/OE (io), 40 B0/MUXsel1 (io), 41 B1/MUXsel2 (io), 42 B2/CLK (io), 47 B3/OE (io), 48 B4/MUXsel1 (io), 49 B5/MUXsel2 (io), 51 B6/CLK (io), 52 B7/OE (io), 53 B8/MUXsel1 (io), 54 B9/MUXsel2 (io), 56 B10/CLK (io), 57 B11/OE (io), 58 B12/MUXsel1 (io), 59 B13/MUXsel2 (io), 60 B14/CLK (io), 63 Y0 (in), 64 Y1 (in), 66 TDO/SDO (out), 67 TMS/MODE (in), 68 TCK/SCLK (in), 69 TDI/SDI (in), 70 B15/OE (io), 71 B16/MUXsel1 (io), 72 B17/MUXsel2 (io), 73 B18/CLK (io), 74 B19/OE (io), 75 B20/MUXsel1 (io), 76 B21/MUXsel2 (io), 78 B22/CLK (io), 80 B23/OE (io), 81 B24/MUXsel1 (io), 82 B25/MUXsel2 (io), 83 B26/CLK (io), 84 B27/OE (io), 85 B28/MUXsel1 (io), 86 B29/MUXsel2 (io), 92 C0/CLK (io), 93 C1/OE (io), 94 C2/MUXsel1 (io), 95 C3/MUXsel2 (io), 96 C4/CLK (io), 97 C5/OE (io), 98 C6/MUXsel1 (io), 100 C7/MUXsel2 (io), 102 C8/CLK (io), 103 C9/OE (io), 104 C10/MUXsel1 (io), 105 C11/MUXsel2 (io), 106 C12/CLK (io), 107 C13/OE (io), 108 C14/MUXsel1 (io), 109 C15/MUXsel2 (io), 111 C16/CLK (io), 112 C17/OE (io), 113 C18/MUXsel1 (io), 114 C19//MUXsel2 (io), 116 C20/CLK (io), 117 C21/OE (io), 118 C22/MUXsel1 (io), 119 C23/MUXsel2 (io), 121 C24/CLK (io), 122 C25/OE (io), 123 C26/MUXsel1 (io), 124 C27/MUXsel2 (io), 125 C28/CLK (io), 126 C29/OE (io), 127 D0/MUXsel1 (io), 128 D1/MUXsel2 (io), 135 D2/CLK (io), 137 D3/OE (io), 138 D4/MUXsel1 (io), 139 D5/MUXsel2 (io), 140 D6/CLK (io), 141 D7/OE (io), 142 D8/MUXsel1 (io), 143 D9/MUXsel2 (io), 145 D10/CLK (io), 146 D11/OE (io), 147 D12/MUXsel1 (io), 148 D13/MUXsel2 (io), 149 D14/CLK (io), 150 TOE (in), 152 Y2 (in), 153 Y3 (in), 154 BSCAN/~{ispEN} (in), 156 ~{RST} (in), 157 D15/OE (io), 158 D16/MUXsel1 (io), 160 D17/MUXsel2 (io), 162 D18/CLK (io), 163 D19/OE (io), 164 D20/MUXsel1 (io), 165 D21/MUXsel2 (io), 166 D22/CLK (io), 167 D23/OE (io), 168 D24/MUXsel1 (io), 169 D25/MUXsel2 (io), 171 D26/CLK (io), 172 D27/OE (io), 173 D28/MUXsel1 (io), 174 D29/MUXsel2 (io)
part B pins: 1 NC, 2 NC, 3 VCC (power), 8 GND (power), 17 GND (power), 19 VCC (power), 27 GND (power), 35 VCC (power), 37 GND (power), 43 NC, 44 NC, 45 NC, 46 NC, 50 GND (power), 55 VCC (power), 61 NC, 62 NC, 65 GND (power), 77 GND (power), 79 VCC (power), 87 NC, 88 NC, 89 NC, 90 NC, 91 GND (power), 99 VCC (power), 101 GND (power), 110 GND (power), 115 VCC (power), 120 GND (power), 129 GND (power), 130 NC, 131 NC, 132 NC, 133 NC, 134 NC, 136 VCC (power), 144 GND (power), 151 NC, 155 VCC (power), 159 VCC (power), 161 GND (power), 170 GND (power), 175 NC, 176 NC

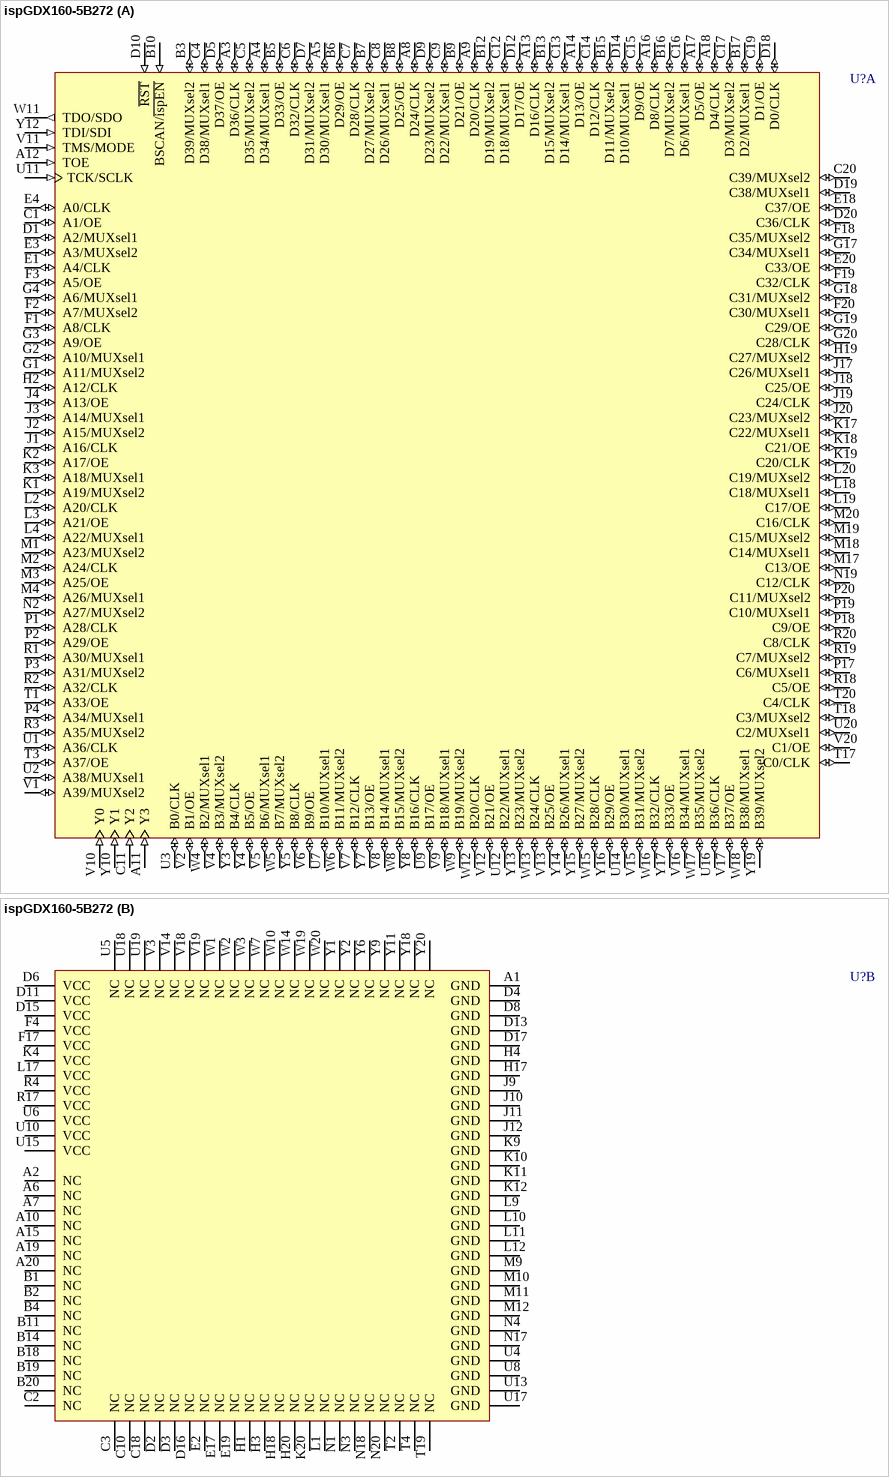
[diagram p4: symbol ispGDX160-5B272]

## ispGDX160-5B272
designator U?
In-System Programmable Generic Digital Crosspoint; Note: NC pins are not to be connected to any active signals, VCC or GND.; Published: 17-Jul-2002; LatestRevisionDate: 13-Apr-2006; LatestRevisionNote: IPC-7351 Footprint Added.; DatasheetVersion: Aug-2000; PackageVersion: pkg_32, Aug-2005; PackageReference: BGA272; Publisher: Altium Limited; PackageDescription: 272-Ball Ball Grid Array (BGA272); ComponentLink1Description: Manufacturer Link; ComponentLink1URL: http://www.latticesemi.com/products/digin/ispGDX/index.cfm; ComponentLink2Description: Datasheet; ComponentLink2URL: http://www.latticesemi.com/account/_download.cfm?AMID=126; ComponentLink3Description: Lattice Login; ComponentLink3URL: http://www.latticesemi.com/account/login.cfm
footprint BGA272 (BGA, 272-Leads, Body 27x27mm, Pitch 1.27mm)
3D model 160-BGA272 (272-Ball Ball Grid Array (BGA272))
part A pins: A3 D36/CLK (io), A4 D34/MUXsel1 (io), A5 D30/MUXsel1 (io), A8 D24/CLK (io), A9 D20/CLK (io), A11 Y3 (in), A12 TOE (in), A13 D16/CLK (io), A14 D13/OE (io), A16 D8/CLK (io), A17 D5/OE (io), A18 D4/CLK (io), B3 D39/MUXsel2 (io), B5 D33/OE (io), B6 D29/OE (io), B7 D27/MUXsel2 (io), B8 D25/OE (io), B9 D21/OE (io), B10 BSCAN/~{ispEN} (in), B12 D19/MUXsel2 (io), B13 D15/MUXsel2 (io), B15 D11/MUXsel2 (io), B16 D7/MUXsel2 (io), B17 D2/MUXsel1 (io), C1 A1/OE (io), C4 D38/MUXsel1 (io), C5 D35/MUXsel2 (io), C6 D32/CLK (io), C7 D28/CLK (io), C8 D26/MUXsel1 (io), C9 D22/MUXsel1 (io), C11 Y2 (in), C12 D18/MUXsel1 (io), C13 D14/MUXsel1 (io), C14 D12/CLK (io), C15 D9/OE (io), C16 D6/MUXsel1 (io), C17 D3/MUXsel2 (io), C19 D1/OE (io), C20 C39/MUXsel2 (io), D1 A2/MUXsel1 (io), D5 D37/OE (io), D7 D31/MUXsel2 (io), D9 D23/MUXsel2 (io), D10 ~{RST} (in), D12 D17/OE (io), D14 D10/MUXsel1 (io), D18 D0/CLK (io), D19 C38/MUXsel1 (io), D20 C36/CLK (io), E1 A4/CLK (io), E3 A3/MUXsel2 (io), E4 A0/CLK (io), E18 C37/OE (io), E20 C33/OE (io), F1 A8/CLK (io), F2 A7/MUXsel2 (io), F3 A5/OE (io), F18 C35/MUXsel2 (io), F19 C32/CLK (io), F20 C30/MUXsel1 (io), G1 A11/MUXsel2 (io), G2 A10/MUXsel1 (io), G3 A9/OE (io), G4 A6/MUXsel1 (io), G17 C34/MUXsel1 (io), G18 C31/MUXsel2 (io), G19 C29/OE (io), G20 C28/CLK (io), H2 A12/CLK (io), H19 C27/MUXsel2 (io), J1 A16/CLK (io), J2 A15/MUXsel2 (io), J3 A14/MUXsel1 (io), J4 A13/OE (io), J17 C26/MUXsel1 (io), J18 C25/OE (io), J19 C24/CLK (io), J20 C23/MUXsel2 (io), K1 A19/MUXsel2 (io), K2 A17/OE (io), K3 A18/MUXsel1 (io), K17 C22/MUXsel1 (io), K18 C21/OE (io), K19 C20/CLK (io), L2 A20/CLK (io), L3 A21/OE (io), L4 A22/MUXsel1 (io), L18 C18/MUXsel1 (io), L19 C17/OE (io), L20 C19/MUXsel2 (io), M1 A23/MUXsel2 (io), M2 A24/CLK (io), M3 A25/OE (io), M4 A26/MUXsel1 (io), M17 C13/OE (io), M18 C14/MUXsel1 (io), M19 C15/MUXsel2 (io), M20 C16/CLK (io), N2 A27/MUXsel2 (io), N19 C12/CLK (io), P1 A28/CLK (io), P2 A29/OE (io), P3 A31/MUXsel2 (io), P4 A34/MUXsel1 (io), P17 C6/MUXsel1 (io), P18 C9/OE (io), P19 C10/MUXsel1 (io), P20 C11/MUXsel2 (io), R1 A30/MUXsel1 (io), R2 A32/CLK (io), R3 A35/MUXsel2 (io), R18 C5/OE (io), R19 C7/MUXsel2 (io), R20 C8/CLK (io), T1 A33/OE (io), T3 A37/OE (io), T17 C0/CLK (io), T18 C3/MUXsel2 (io), T20 C4/CLK (io), U1 A36/CLK (io), U2 A38/MUXsel1 (io), U3 B0/CLK (io), U7 B10/MUXsel1 (io), U9 B17/OE (io), U11 TCK/SCLK (in), U12 B22/MUXsel1 (io), U14 B30/MUXsel1 (io), U16 B36/CLK (io), U20 C2/MUXsel1 (io), V1 A39/MUXsel2 (io), V2 B1/OE (io), V4 B3/MUXsel2 (io), V5 B6/MUXsel1 (io), V6 B9/OE (io), V7 B12/CLK (io), V8 B14/MUXsel1 (io), V9 B18/MUXsel1 (io), V10 Y0 (in), V11 TMS/MODE (in), V12 B21/OE (io), V13 B25/OE (io), V15 B31/MUXsel2 (io), V16 B34/MUXsel1 (io), V17 B37/OE (io), V20 C1/OE (io), W4 B2/MUXsel1 (io), W5 B7/MUXsel2 (io), W6 B11/MUXsel2 (io), W8 B15/MUXsel2 (io), W9 B19/MUXsel2 (io), W11 TDO/SDO (out), W12 B20/CLK (io), W13 B24/CLK (io), W15 B28/CLK (io), W16 B32/CLK (io), W17 B35/MUXsel2 (io), W18 B38/MUXsel1 (io), Y3 B4/CLK (io), Y4 B5/OE (io), Y5 B8/CLK (io), Y7 B13/OE (io), Y8 B16/CLK (io), Y10 Y1 (in), Y12 TDI/SDI (in), Y13 B23/MUXsel2 (io), Y14 B26/MUXsel1 (io), Y15 B27/MUXsel2 (io), Y16 B29/OE (io), Y17 B33/OE (io), Y19 B39/MUXsel2 (io)
part B pins: A1 GND (power), A2 NC, A6 NC, A7 NC, A10 NC, A15 NC, A19 NC, A20 NC, B1 NC, B2 NC, B4 NC, B11 NC, B14 NC, B18 NC, B19 NC, B20 NC, C2 NC, C3 NC, C10 NC, C18 NC, D2 NC, D3 NC, D4 GND (power), D6 VCC (power), D8 GND (power), D11 VCC (power), D13 GND (power), D15 VCC (power), D16 NC, D17 GND (power), E2 NC, E17 NC, E19 NC, F4 VCC (power), F17 VCC (power), H1 NC, H3 NC, H4 GND (power), H17 GND (power), H18 NC, H20 NC, J9 GND (power), J10 GND (power), J11 GND (power), J12 GND (power), K4 VCC (power), K9 GND (power), K10 GND (power), K11 GND (power), K12 GND (power), K20 NC, L1 NC, L9 GND (power), L10 GND (power), L11 GND (power), L12 GND (power), L17 VCC (power), M9 GND (power), M10 GND (power), M11 GND (power), M12 GND (power), N1 NC, N3 NC, N4 GND (power), N17 GND (power), N18 NC, N20 NC, R4 VCC (power), R17 VCC (power), T2 NC, T4 NC, T19 NC, U4 GND (power), U5 NC, U6 VCC (power), U8 GND (power), U10 VCC (power), U13 GND (power), U15 VCC (power), U17 GND (power), U18 NC, U19 NC, V3 NC, V14 NC, V18 NC, V19 NC, W1 NC, W2 NC, W3 NC, W7 NC, W10 NC, W14 NC, W19 NC, W20 NC, Y1 NC, Y2 NC, Y6 NC, Y9 NC, Y11 NC, Y18 NC, Y20 NC

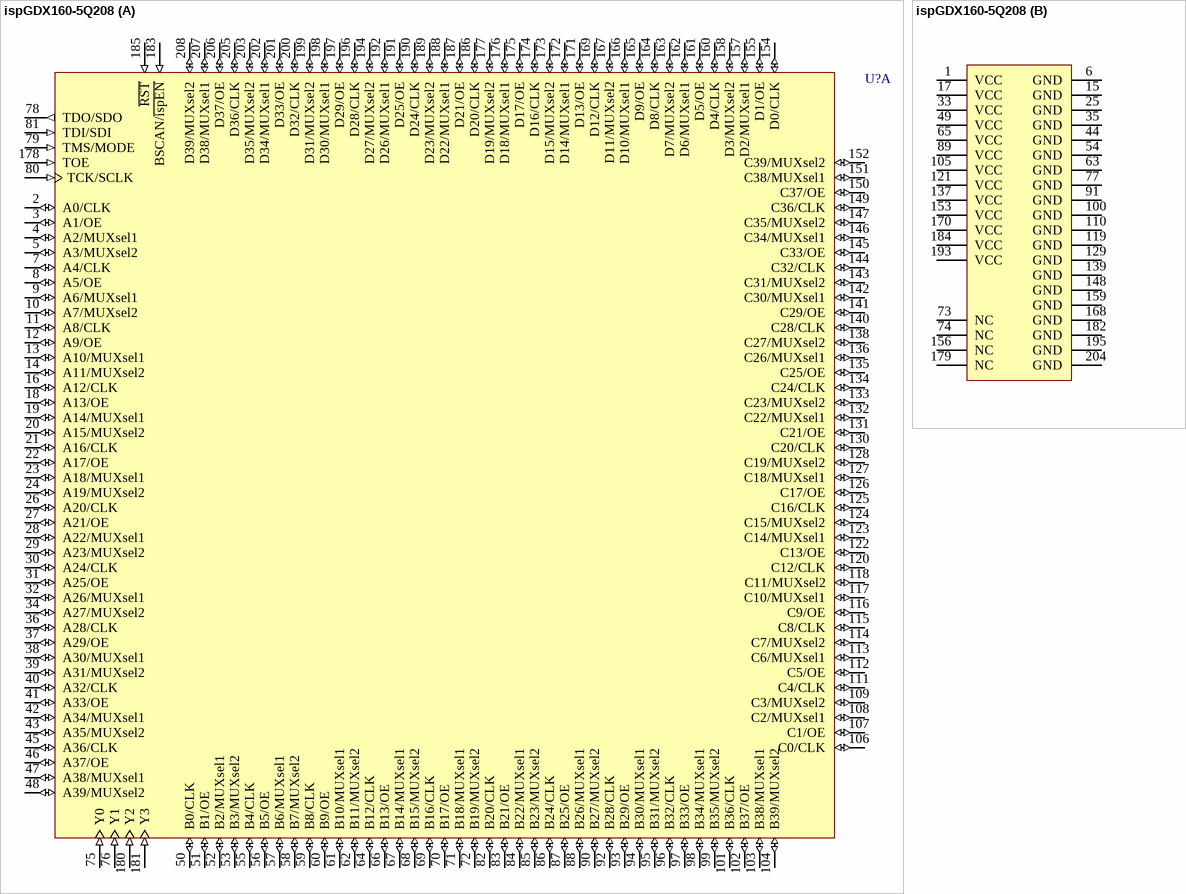
[diagram p5: symbol ispGDX160-5Q208]

## ispGDX160-5Q208
designator U?
In-System Programmable Generic Digital Crosspoint; Note: NC pins are not to be connected to any active signals, VCC or GND.; Published: 17-Jul-2002; LatestRevisionDate: 13-Apr-2006; LatestRevisionNote: IPC-7351 Footprint Added.; DatasheetVersion: Aug-2000; PackageVersion: pkg_32, Aug-2005; PackageReference: PQFP208; Publisher: Altium Limited; PackageDescription: 208-Pin Plastic Quad Flat Pack (PQFP208); Code_JEDEC: MO-143-FAI; ComponentLink1Description: Manufacturer Link; ComponentLink1URL: http://www.latticesemi.com/products/digin/ispGDX/index.cfm; ComponentLink2Description: Datasheet; ComponentLink2URL: http://www.latticesemi.com/account/_download.cfm?AMID=126; ComponentLink3Description: Lattice Login; ComponentLink3URL: http://www.latticesemi.com/account/login.cfm
footprint PQFP208_N (Shrink QFP, 208-Leads, Body 28x28mm, Pitch 0.5mm, IPC Medium Density)
footprint PQFP208_L (Shrink QFP, 208-Leads, Body 28x28mm, Pitch 0.5mm, IPC High Density)
footprint PQFP208_M (Shrink QFP, 208-Leads, Body 28x28mm, Pitch 0.5mm, IPC Low Density)
3D model 160-PQFP208 (208-Pin Plastic Quad Flat Pack (PQFP208))
part A pins: 2 A0/CLK (io), 3 A1/OE (io), 4 A2/MUXsel1 (io), 5 A3/MUXsel2 (io), 7 A4/CLK (io), 8 A5/OE (io), 9 A6/MUXsel1 (io), 10 A7/MUXsel2 (io), 11 A8/CLK (io), 12 A9/OE (io), 13 A10/MUXsel1 (io), 14 A11/MUXsel2 (io), 16 A12/CLK (io), 18 A13/OE (io), 19 A14/MUXsel1 (io), 20 A15/MUXsel2 (io), 21 A16/CLK (io), 22 A17/OE (io), 23 A18/MUXsel1 (io), 24 A19/MUXsel2 (io), 26 A20/CLK (io), 27 A21/OE (io), 28 A22/MUXsel1 (io), 29 A23/MUXsel2 (io), 30 A24/CLK (io), 31 A25/OE (io), 32 A26/MUXsel1 (io), 34 A27/MUXsel2 (io), 36 A28/CLK (io), 37 A29/OE (io), 38 A30/MUXsel1 (io), 39 A31/MUXsel2 (io), 40 A32/CLK (io), 41 A33/OE (io), 42 A34/MUXsel1 (io), 43 A35/MUXsel2 (io), 45 A36/CLK (io), 46 A37/OE (io), 47 A38/MUXsel1 (io), 48 A39/MUXsel2 (io), 50 B0/CLK (io), 51 B1/OE (io), 52 B2/MUXsel1 (io), 53 B3/MUXsel2 (io), 55 B4/CLK (io), 56 B5/OE (io), 57 B6/MUXsel1 (io), 58 B7/MUXsel2 (io), 59 B8/CLK (io), 60 B9/OE (io), 61 B10/MUXsel1 (io), 62 B11/MUXsel2 (io), 64 B12/CLK (io), 66 B13/OE (io), 67 B14/MUXsel1 (io), 68 B15/MUXsel2 (io), 69 B16/CLK (io), 70 B17/OE (io), 71 B18/MUXsel1 (io), 72 B19/MUXsel2 (io), 75 Y0 (in), 76 Y1 (in), 78 TDO/SDO (out), 79 TMS/MODE (in), 80 TCK/SCLK (in), 81 TDI/SDI (in), 82 B20/CLK (io), 83 B21/OE (io), 84 B22/MUXsel1 (io), 85 B23/MUXsel2 (io), 86 B24/CLK (io), 87 B25/OE (io), 88 B26/MUXsel1 (io), 90 B27/MUXsel2 (io), 92 B28/CLK (io), 93 B29/OE (io), 94 B30/MUXsel1 (io), 95 B31/MUXsel2 (io), 96 B32/CLK (io), 97 B33/OE (io), 98 B34/MUXsel1 (io), 99 B35/MUXsel2 (io), 101 B36/CLK (io), 102 B37/OE (io), 103 B38/MUXsel1 (io), 104 B39/MUXsel2 (io), 106 C0/CLK (io), 107 C1/OE (io), 108 C2/MUXsel1 (io), 109 C3/MUXsel2 (io), 111 C4/CLK (io), 112 C5/OE (io), 113 C6/MUXsel1 (io), 114 C7/MUXsel2 (io), 115 C8/CLK (io), 116 C9/OE (io), 117 C10/MUXsel1 (io), 118 C11/MUXsel2 (io), 120 C12/CLK (io), 122 C13/OE (io), 123 C14/MUXsel1 (io), 124 C15/MUXsel2 (io), 125 C16/CLK (io), 126 C17/OE (io), 127 C18/MUXsel1 (io), 128 C19/MUXsel2 (io), 130 C20/CLK (io), 131 C21/OE (io), 132 C22/MUXsel1 (io), 133 C23/MUXsel2 (io), 134 C24/CLK (io), 135 C25/OE (io), 136 C26/MUXsel1 (io), 138 C27/MUXsel2 (io), 140 C28/CLK (io), 141 C29/OE (io), 142 C30/MUXsel1 (io), 143 C31/MUXsel2 (io), 144 C32/CLK (io), 145 C33/OE (io), 146 C34/MUXsel1 (io), 147 C35/MUXsel2 (io), 149 C36/CLK (io), 150 C37/OE (io), 151 C38/MUXsel1 (io), 152 C39/MUXsel2 (io), 154 D0/CLK (io), 155 D1/OE (io), 157 D2/MUXsel1 (io), 158 D3/MUXsel2 (io), 160 D4/CLK (io), 161 D5/OE (io), 162 D6/MUXsel1 (io), 163 D7/MUXsel2 (io), 164 D8/CLK (io), 165 D9/OE (io), 166 D10/MUXsel1 (io), 167 D11/MUXsel2 (io), 169 D12/CLK (io), 171 D13/OE (io), 172 D14/MUXsel1 (io), 173 D15/MUXsel2 (io), 174 D16/CLK (io), 175 D17/OE (io), 176 D18/MUXsel1 (io), 177 D19/MUXsel2 (io), 178 TOE (in), 180 Y2 (in), 181 Y3 (in), 183 BSCAN/~{ispEN} (in), 185 ~{RST} (in), 186 D20/CLK (io), 187 D21/OE (io), 188 D22/MUXsel1 (io), 189 D23/MUXsel2 (io), 190 D24/CLK (io), 191 D25/OE (io), 192 D26/MUXsel1 (io), 194 D27/MUXsel2 (io), 196 D28/CLK (io), 197 D29/OE (io), 198 D30/MUXsel1 (io), 199 D31/MUXsel2 (io), 200 D32/CLK (io), 201 D33/OE (io), 202 D34/MUXsel1 (io), 203 D35/MUXsel2 (io), 205 D36/CLK (io), 206 D37/OE (io), 207 D38/MUXsel1 (io), 208 D39/MUXsel2 (io)
part B pins: 1 VCC (power), 6 GND (power), 15 GND (power), 17 VCC (power), 25 GND (power), 33 VCC (power), 35 GND (power), 44 GND (power), 49 VCC (power), 54 GND (power), 63 GND (power), 65 VCC (power), 73 NC, 74 NC, 77 GND (power), 89 VCC (power), 91 GND (power), 100 GND (power), 105 VCC (power), 110 GND (power), 119 GND (power), 121 VCC (power), 129 GND (power), 137 VCC (power), 139 GND (power), 148 GND (power), 153 VCC (power), 156 NC, 159 GND (power), 168 GND (power), 170 VCC (power), 179 NC, 182 GND (power), 184 VCC (power), 193 VCC (power), 195 GND (power), 204 GND (power)

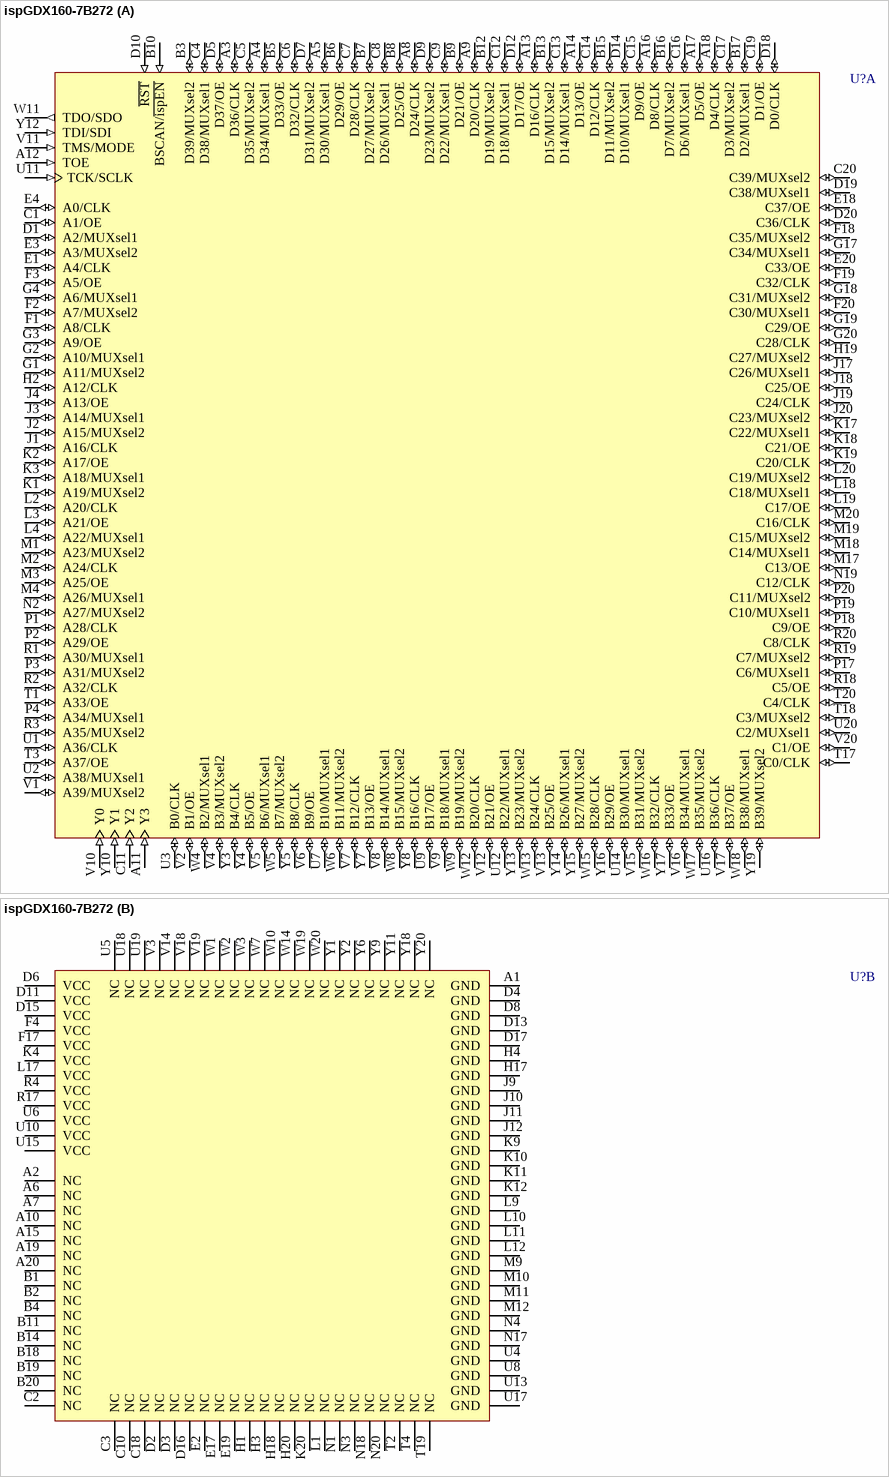
[diagram p6: symbol ispGDX160-7B272]